# Altium integrated library ST Microcontroller 8-Bit.IntLib: 1326 symbols (part 1 of 31)
Pins are listed as number, name and electrical type; pins without a type are passive.

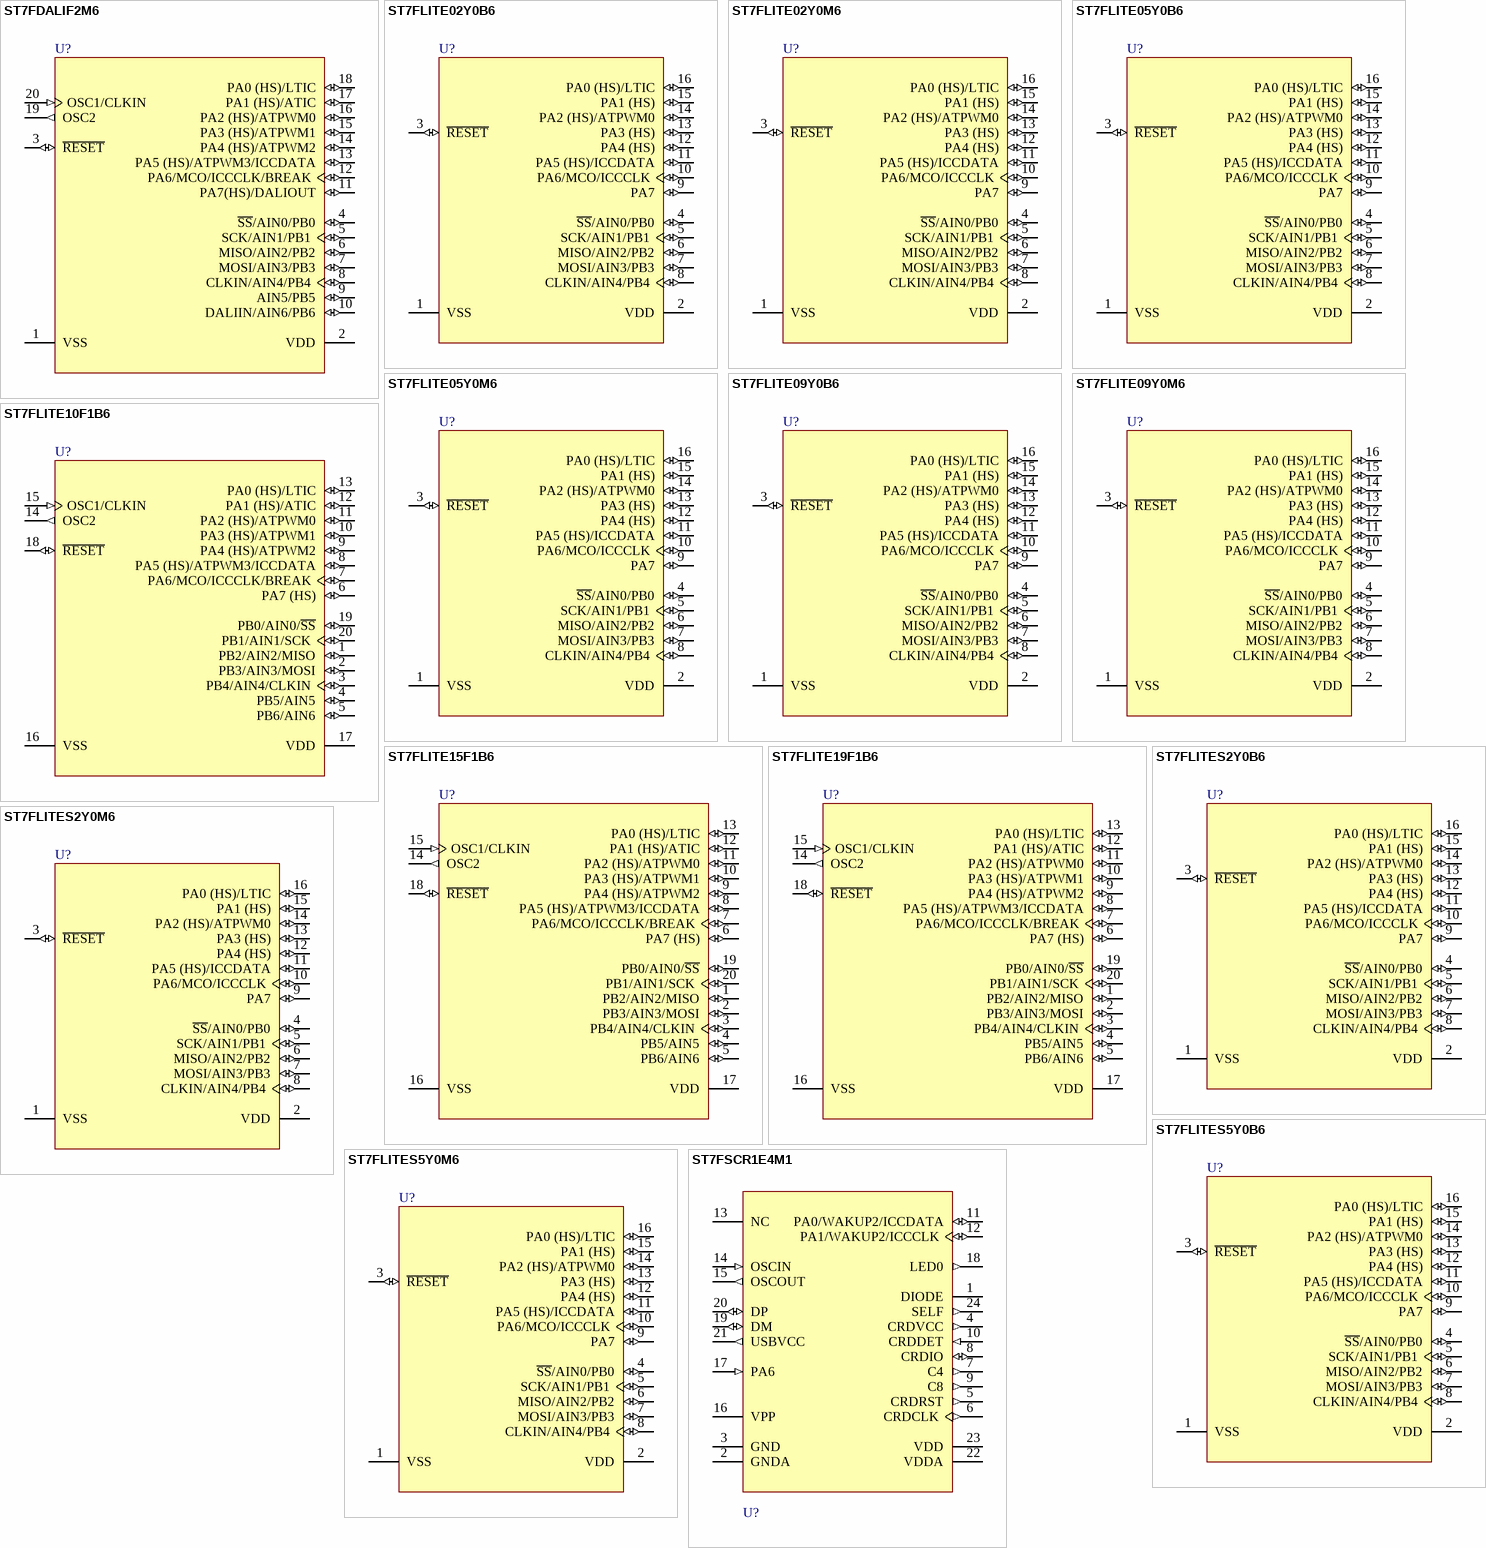
[diagram p0: symbols ST7FDALIF2M6 to ST7FSCR1E4M1]

## ST7FDALIF2M6
designator U?
8-Bit MCU with 8k Single Voltage FLASH Memory, 384b RAM, Data EEPROM, 10-Bit ADC, Timers, SPI and DALI, 20-Pin SOIC; Note: Pins 4-18 are External Interrupt (EI) pins.; Published: 26-May-2004; DatasheetDocument: rev1.3, Aug-2003; PackageDocument: Jul-2001; PackageReference: SO20; Publisher: Altium Limited; Code_JEDEC: MS-013-AC; Code_IPC: SO20W
footprint SO20 (Small Outline, Plastic; 20 Leads; Body Width 7.5 mm; Pitch 1.27 mm)
pins: 1 VSS (power), 2 VDD (power), 3 ~{RESET} (io), 4 ~{SS}/AIN0/PB0 (io), 5 SCK/AIN1/PB1 (io), 6 MISO/AIN2/PB2 (io), 7 MOSI/AIN3/PB3 (io), 8 CLKIN/AIN4/PB4 (io), 9 AIN5/PB5 (io), 10 DALIIN/AIN6/PB6 (io), 11 PA7(HS)/DALIOUT (io), 12 PA6/MCO/ICCCLK/BREAK (io), 13 PA5 (HS)/ATPWM3/ICCDATA (io), 14 PA4 (HS)/ATPWM2 (io), 15 PA3 (HS)/ATPWM1 (io), 16 PA2 (HS)/ATPWM0 (io), 17 PA1 (HS)/ATIC (io), 18 PA0 (HS)/LTIC (io), 19 OSC2 (out), 20 OSC1/CLKIN (in)

## ST7FLITE02Y0B6
designator U?
8-Bit MCU with 1.5k Single Voltage FLASH Memory, 128b RAM, Timers and SPI, 16-Pin DIP; Note: Pins 4, 7, 9 and 16 are External Interrupt (EI) pins.; Published: 26-May-2004; DatasheetDocument: rev2.5, Dec-2003; PackageDocument: Dec-2003; PackageReference: PDIP16; Publisher: Altium Limited
footprint PDIP16 (DIP; 16 Leads; Row Spacing 7.62 mm; Pitch 2.54 mm)
pins: 1 VSS (power), 2 VDD (power), 3 ~{RESET} (io), 4 ~{SS}/AIN0/PB0 (io), 5 SCK/AIN1/PB1 (io), 6 MISO/AIN2/PB2 (io), 7 MOSI/AIN3/PB3 (io), 8 CLKIN/AIN4/PB4 (io), 9 PA7 (io), 10 PA6/MCO/ICCCLK (io), 11 PA5 (HS)/ICCDATA (io), 12 PA4 (HS) (io), 13 PA3 (HS) (io), 14 PA2 (HS)/ATPWM0 (io), 15 PA1 (HS) (io), 16 PA0 (HS)/LTIC (io)

## ST7FLITE02Y0M6
designator U?
8-Bit MCU with 1.5k Single Voltage FLASH Memory, 128b RAM, Timers and SPI, 16-Pin SOIC; Note: Pins 4, 7, 9 and 16 are External Interrupt (EI) pins.; Published: 26-May-2004; DatasheetDocument: rev2.5, Dec-2003; PackageDocument: Dec-2003; PackageReference: PSO16; Publisher: Altium Limited; Code_JEDEC: MS-012-AC; Code_IPC: SO16
footprint PSO16 (Small Outline, Plastic; 16 Leads; Body Width 3.8 mm; Pitch 1.27 mm)
pins: 1 VSS (power), 2 VDD (power), 3 ~{RESET} (io), 4 ~{SS}/AIN0/PB0 (io), 5 SCK/AIN1/PB1 (io), 6 MISO/AIN2/PB2 (io), 7 MOSI/AIN3/PB3 (io), 8 CLKIN/AIN4/PB4 (io), 9 PA7 (io), 10 PA6/MCO/ICCCLK (io), 11 PA5 (HS)/ICCDATA (io), 12 PA4 (HS) (io), 13 PA3 (HS) (io), 14 PA2 (HS)/ATPWM0 (io), 15 PA1 (HS) (io), 16 PA0 (HS)/LTIC (io)

## ST7FLITE05Y0B6
designator U?
8-Bit MCU with 1.5k Single Voltage FLASH Memory, 128b RAM, 8-Bit ADC with Op-Amp, Timers and SPI, 16-Pin DIP; Note: Pins 4, 7, 9 and 16 are External Interrupt (EI) pins.; Published: 26-May-2004; DatasheetDocument: rev2.5, Dec-2003; PackageDocument: Dec-2003; PackageReference: PDIP16; Publisher: Altium Limited
footprint PDIP16 (DIP; 16 Leads; Row Spacing 7.62 mm; Pitch 2.54 mm)
pins: 1 VSS (power), 2 VDD (power), 3 ~{RESET} (io), 4 ~{SS}/AIN0/PB0 (io), 5 SCK/AIN1/PB1 (io), 6 MISO/AIN2/PB2 (io), 7 MOSI/AIN3/PB3 (io), 8 CLKIN/AIN4/PB4 (io), 9 PA7 (io), 10 PA6/MCO/ICCCLK (io), 11 PA5 (HS)/ICCDATA (io), 12 PA4 (HS) (io), 13 PA3 (HS) (io), 14 PA2 (HS)/ATPWM0 (io), 15 PA1 (HS) (io), 16 PA0 (HS)/LTIC (io)

## ST7FLITE05Y0M6
designator U?
8-Bit MCU with 1.5k Single Voltage FLASH Memory, 128b RAM, 8-Bit ADC with Op-Amp, Timers and SPI, 16-Pin SOIC; Note: Pins 4, 7, 9 and 16 are External Interrupt (EI) pins.; Published: 26-May-2004; DatasheetDocument: rev2.5, Dec-2003; PackageDocument: Dec-2003; PackageReference: PSO16; Publisher: Altium Limited; Code_JEDEC: MS-012-AC; Code_IPC: SO16
footprint PSO16 (Small Outline, Plastic; 16 Leads; Body Width 3.8 mm; Pitch 1.27 mm)
pins: 1 VSS (power), 2 VDD (power), 3 ~{RESET} (io), 4 ~{SS}/AIN0/PB0 (io), 5 SCK/AIN1/PB1 (io), 6 MISO/AIN2/PB2 (io), 7 MOSI/AIN3/PB3 (io), 8 CLKIN/AIN4/PB4 (io), 9 PA7 (io), 10 PA6/MCO/ICCCLK (io), 11 PA5 (HS)/ICCDATA (io), 12 PA4 (HS) (io), 13 PA3 (HS) (io), 14 PA2 (HS)/ATPWM0 (io), 15 PA1 (HS) (io), 16 PA0 (HS)/LTIC (io)

## ST7FLITE09Y0B6
designator U?
8-Bit MCU with 1.5k Single Voltage FLASH Memory, 128b RAM, Data EEPROM, 8-Bit ADC with Op-Amp, Timers and SPI, 16-Pin DIP; Note: Pins 4, 7, 9 and 16 are External Interrupt (EI) pins.; Published: 26-May-2004; DatasheetDocument: rev2.5, Dec-2003; PackageDocument: Dec-2003; PackageReference: PDIP16; Publisher: Altium Limited
footprint PDIP16 (DIP; 16 Leads; Row Spacing 7.62 mm; Pitch 2.54 mm)
pins: 1 VSS (power), 2 VDD (power), 3 ~{RESET} (io), 4 ~{SS}/AIN0/PB0 (io), 5 SCK/AIN1/PB1 (io), 6 MISO/AIN2/PB2 (io), 7 MOSI/AIN3/PB3 (io), 8 CLKIN/AIN4/PB4 (io), 9 PA7 (io), 10 PA6/MCO/ICCCLK (io), 11 PA5 (HS)/ICCDATA (io), 12 PA4 (HS) (io), 13 PA3 (HS) (io), 14 PA2 (HS)/ATPWM0 (io), 15 PA1 (HS) (io), 16 PA0 (HS)/LTIC (io)

## ST7FLITE09Y0M6
designator U?
8-Bit MCU with 1.5k Single Voltage FLASH Memory, 128b RAM, Data EEPROM, 8-Bit ADC with Op-Amp, Timers and SPI, 16-Pin SOIC; Note: Pins 4, 7, 9 and 16 are External Interrupt (EI) pins.; Published: 26-May-2004; DatasheetDocument: rev2.5, Dec-2003; PackageDocument: Dec-2003; PackageReference: PSO16; Publisher: Altium Limited; Code_JEDEC: MS-012-AC; Code_IPC: SO16
footprint PSO16 (Small Outline, Plastic; 16 Leads; Body Width 3.8 mm; Pitch 1.27 mm)
pins: 1 VSS (power), 2 VDD (power), 3 ~{RESET} (io), 4 ~{SS}/AIN0/PB0 (io), 5 SCK/AIN1/PB1 (io), 6 MISO/AIN2/PB2 (io), 7 MOSI/AIN3/PB3 (io), 8 CLKIN/AIN4/PB4 (io), 9 PA7 (io), 10 PA6/MCO/ICCCLK (io), 11 PA5 (HS)/ICCDATA (io), 12 PA4 (HS) (io), 13 PA3 (HS) (io), 14 PA2 (HS)/ATPWM0 (io), 15 PA1 (HS) (io), 16 PA0 (HS)/LTIC (io)

## ST7FLITE10F1B6
designator U?
8-Bit MCU with 4k Single Voltage FLASH Memory, 256b RAM, 10-Bit ADC with Op-Amp, Four Timers and SPI, 20-Pin DIP; Note: Pins 1-13, 19 and 20 are External Interrupt (EI) pins.; Published: 26-May-2004; DatasheetDocument: rev1.3, Jul-2003; PackageDocument: Jul-2003; PackageReference: PDIP20; Publisher: Altium Limited; Code_JEDEC: MS-001-AD
footprint PDIP20 (DIP; 20 Leads; Row Spacing 7.62 mm; Pitch 2.54 mm)
pins: 1 PB2/AIN2/MISO (io), 2 PB3/AIN3/MOSI (io), 3 PB4/AIN4/CLKIN (io), 4 PB5/AIN5 (io), 5 PB6/AIN6 (io), 6 PA7 (HS) (io), 7 PA6/MCO/ICCCLK/BREAK (io), 8 PA5 (HS)/ATPWM3/ICCDATA (io), 9 PA4 (HS)/ATPWM2 (io), 10 PA3 (HS)/ATPWM1 (io), 11 PA2 (HS)/ATPWM0 (io), 12 PA1 (HS)/ATIC (io), 13 PA0 (HS)/LTIC (io), 14 OSC2 (out), 15 OSC1/CLKIN (in), 16 VSS (power), 17 VDD (power), 18 ~{RESET} (io), 19 PB0/AIN0/~{SS} (io), 20 PB1/AIN1/SCK (io)

## ST7FLITE15F1B6
designator U?
8-Bit MCU with 4k Single Voltage FLASH Memory, 256b RAM, 10-Bit ADC with Op-Amp, Four Timers and SPI, 20-Pin DIP; Note: Pins 1-13, 19 and 20 are External Interrupt (EI) pins.; Published: 26-May-2004; DatasheetDocument: rev1.3, Jul-2003; PackageDocument: Jul-2003; PackageReference: PDIP20; Publisher: Altium Limited; Code_JEDEC: MS-001-AD
footprint PDIP20 (DIP; 20 Leads; Row Spacing 7.62 mm; Pitch 2.54 mm)
pins: 1 PB2/AIN2/MISO (io), 2 PB3/AIN3/MOSI (io), 3 PB4/AIN4/CLKIN (io), 4 PB5/AIN5 (io), 5 PB6/AIN6 (io), 6 PA7 (HS) (io), 7 PA6/MCO/ICCCLK/BREAK (io), 8 PA5 (HS)/ATPWM3/ICCDATA (io), 9 PA4 (HS)/ATPWM2 (io), 10 PA3 (HS)/ATPWM1 (io), 11 PA2 (HS)/ATPWM0 (io), 12 PA1 (HS)/ATIC (io), 13 PA0 (HS)/LTIC (io), 14 OSC2 (out), 15 OSC1/CLKIN (in), 16 VSS (power), 17 VDD (power), 18 ~{RESET} (io), 19 PB0/AIN0/~{SS} (io), 20 PB1/AIN1/SCK (io)

## ST7FLITE19F1B6
designator U?
8-Bit MCU with 4k Single Voltage FLASH Memory, 256b RAM, Data EEPROM, 10-Bit ADC with Op-Amp, Four Timers and SPI, 20-Pin DIP; Note: Pins 1-13, 19 and 20 are External Interrupt (EI) pins.; Published: 26-May-2004; DatasheetDocument: rev1.3, Jul-2003; PackageDocument: Jul-2003; PackageReference: PDIP20; Publisher: Altium Limited; Code_JEDEC: MS-001-AD
footprint PDIP20 (DIP; 20 Leads; Row Spacing 7.62 mm; Pitch 2.54 mm)
pins: 1 PB2/AIN2/MISO (io), 2 PB3/AIN3/MOSI (io), 3 PB4/AIN4/CLKIN (io), 4 PB5/AIN5 (io), 5 PB6/AIN6 (io), 6 PA7 (HS) (io), 7 PA6/MCO/ICCCLK/BREAK (io), 8 PA5 (HS)/ATPWM3/ICCDATA (io), 9 PA4 (HS)/ATPWM2 (io), 10 PA3 (HS)/ATPWM1 (io), 11 PA2 (HS)/ATPWM0 (io), 12 PA1 (HS)/ATIC (io), 13 PA0 (HS)/LTIC (io), 14 OSC2 (out), 15 OSC1/CLKIN (in), 16 VSS (power), 17 VDD (power), 18 ~{RESET} (io), 19 PB0/AIN0/~{SS} (io), 20 PB1/AIN1/SCK (io)

## ST7FLITES2Y0B6
designator U?
8-Bit MCU with 1k Single Voltage FLASH Memory, 128b RAM, Timers and SPI, 16-Pin DIP; Note: Pins 4, 7, 9 and 16 are External Interrupt (EI) pins.; Published: 26-May-2004; DatasheetDocument: rev2.5, Dec-2003; PackageDocument: Dec-2003; PackageReference: PDIP16; Publisher: Altium Limited
footprint PDIP16 (DIP; 16 Leads; Row Spacing 7.62 mm; Pitch 2.54 mm)
pins: 1 VSS (power), 2 VDD (power), 3 ~{RESET} (io), 4 ~{SS}/AIN0/PB0 (io), 5 SCK/AIN1/PB1 (io), 6 MISO/AIN2/PB2 (io), 7 MOSI/AIN3/PB3 (io), 8 CLKIN/AIN4/PB4 (io), 9 PA7 (io), 10 PA6/MCO/ICCCLK (io), 11 PA5 (HS)/ICCDATA (io), 12 PA4 (HS) (io), 13 PA3 (HS) (io), 14 PA2 (HS)/ATPWM0 (io), 15 PA1 (HS) (io), 16 PA0 (HS)/LTIC (io)

## ST7FLITES2Y0M6
designator U?
8-Bit MCU with 1k Single Voltage FLASH Memory, 128b RAM, Timers and SPI, 16-Pin SOIC; Note: Pins 4, 7, 9 and 16 are External Interrupt (EI) pins.; Published: 26-May-2004; DatasheetDocument: rev2.5, Dec-2003; PackageDocument: Dec-2003; PackageReference: PSO16; Publisher: Altium Limited; Code_JEDEC: MS-012-AC; Code_IPC: SO16
footprint PSO16 (Small Outline, Plastic; 16 Leads; Body Width 3.8 mm; Pitch 1.27 mm)
pins: 1 VSS (power), 2 VDD (power), 3 ~{RESET} (io), 4 ~{SS}/AIN0/PB0 (io), 5 SCK/AIN1/PB1 (io), 6 MISO/AIN2/PB2 (io), 7 MOSI/AIN3/PB3 (io), 8 CLKIN/AIN4/PB4 (io), 9 PA7 (io), 10 PA6/MCO/ICCCLK (io), 11 PA5 (HS)/ICCDATA (io), 12 PA4 (HS) (io), 13 PA3 (HS) (io), 14 PA2 (HS)/ATPWM0 (io), 15 PA1 (HS) (io), 16 PA0 (HS)/LTIC (io)

## ST7FLITES5Y0B6
designator U?
8-Bit MCU with 1k Single Voltage FLASH Memory, 128b RAM, 8-Bit ADC, Timers and SPI, 16-Pin DIP; Note: Pins 4, 7, 9 and 16 are External Interrupt (EI) pins.; Published: 26-May-2004; DatasheetDocument: rev2.5, Dec-2003; PackageDocument: Dec-2003; PackageReference: PDIP16; Publisher: Altium Limited
footprint PDIP16 (DIP; 16 Leads; Row Spacing 7.62 mm; Pitch 2.54 mm)
pins: 1 VSS (power), 2 VDD (power), 3 ~{RESET} (io), 4 ~{SS}/AIN0/PB0 (io), 5 SCK/AIN1/PB1 (io), 6 MISO/AIN2/PB2 (io), 7 MOSI/AIN3/PB3 (io), 8 CLKIN/AIN4/PB4 (io), 9 PA7 (io), 10 PA6/MCO/ICCCLK (io), 11 PA5 (HS)/ICCDATA (io), 12 PA4 (HS) (io), 13 PA3 (HS) (io), 14 PA2 (HS)/ATPWM0 (io), 15 PA1 (HS) (io), 16 PA0 (HS)/LTIC (io)

## ST7FLITES5Y0M6
designator U?
8-Bit MCU with 1k Single Voltage FLASH Memory, 128b RAM, 8-Bit ADC, Timers and SPI, 16-Pin SOIC; Note: Pins 4, 7, 9 and 16 are External Interrupt (EI) pins.; Published: 26-May-2004; DatasheetDocument: rev2.5, Dec-2003; PackageDocument: Dec-2003; PackageReference: PSO16; Publisher: Altium Limited; Code_JEDEC: MS-012-AC; Code_IPC: SO16
footprint PSO16 (Small Outline, Plastic; 16 Leads; Body Width 3.8 mm; Pitch 1.27 mm)
pins: 1 VSS (power), 2 VDD (power), 3 ~{RESET} (io), 4 ~{SS}/AIN0/PB0 (io), 5 SCK/AIN1/PB1 (io), 6 MISO/AIN2/PB2 (io), 7 MOSI/AIN3/PB3 (io), 8 CLKIN/AIN4/PB4 (io), 9 PA7 (io), 10 PA6/MCO/ICCCLK (io), 11 PA5 (HS)/ICCDATA (io), 12 PA4 (HS) (io), 13 PA3 (HS) (io), 14 PA2 (HS)/ATPWM0 (io), 15 PA1 (HS) (io), 16 PA0 (HS)/LTIC (io)

## ST7FSCR1E4M1
designator U?
8-Bit MCU with 16k FLASH, 768b RAM, Full-Speed USB, 8-Bit ADC, Low Power, Smartcard I/F, Timer, 24-Pin SOIC; Published: 26-May-2004; DatasheetDocument: rev1.3, Mar-2003; PackageDocument: Oct-2001; PackageReference: SO24; Publisher: Altium Limited; Code_IPC: SO24W
footprint SO24 (Small Outline, Plastic; 24 Leads; Body Width 7.5 mm; Pitch 1.27 mm)
pins: 1 DIODE (power), 2 GNDA (power), 3 GND (power), 4 CRDVCC (out), 5 CRDRST (out), 6 CRDCLK (out), 7 C4 (out), 8 CRDIO (io), 9 C8 (out), 10 CRDDET (in), 11 PA0/WAKUP2/ICCDATA (io), 12 PA1/WAKUP2/ICCCLK (io), 13 NC, 14 OSCIN (in), 15 OSCOUT (out), 16 VPP (power), 17 PA6 (in), 18 LED0 (out), 19 DM (io), 20 DP (io), 21 USBVCC (out), 22 VDDA (power), 23 VDD (power), 24 SELF (out)

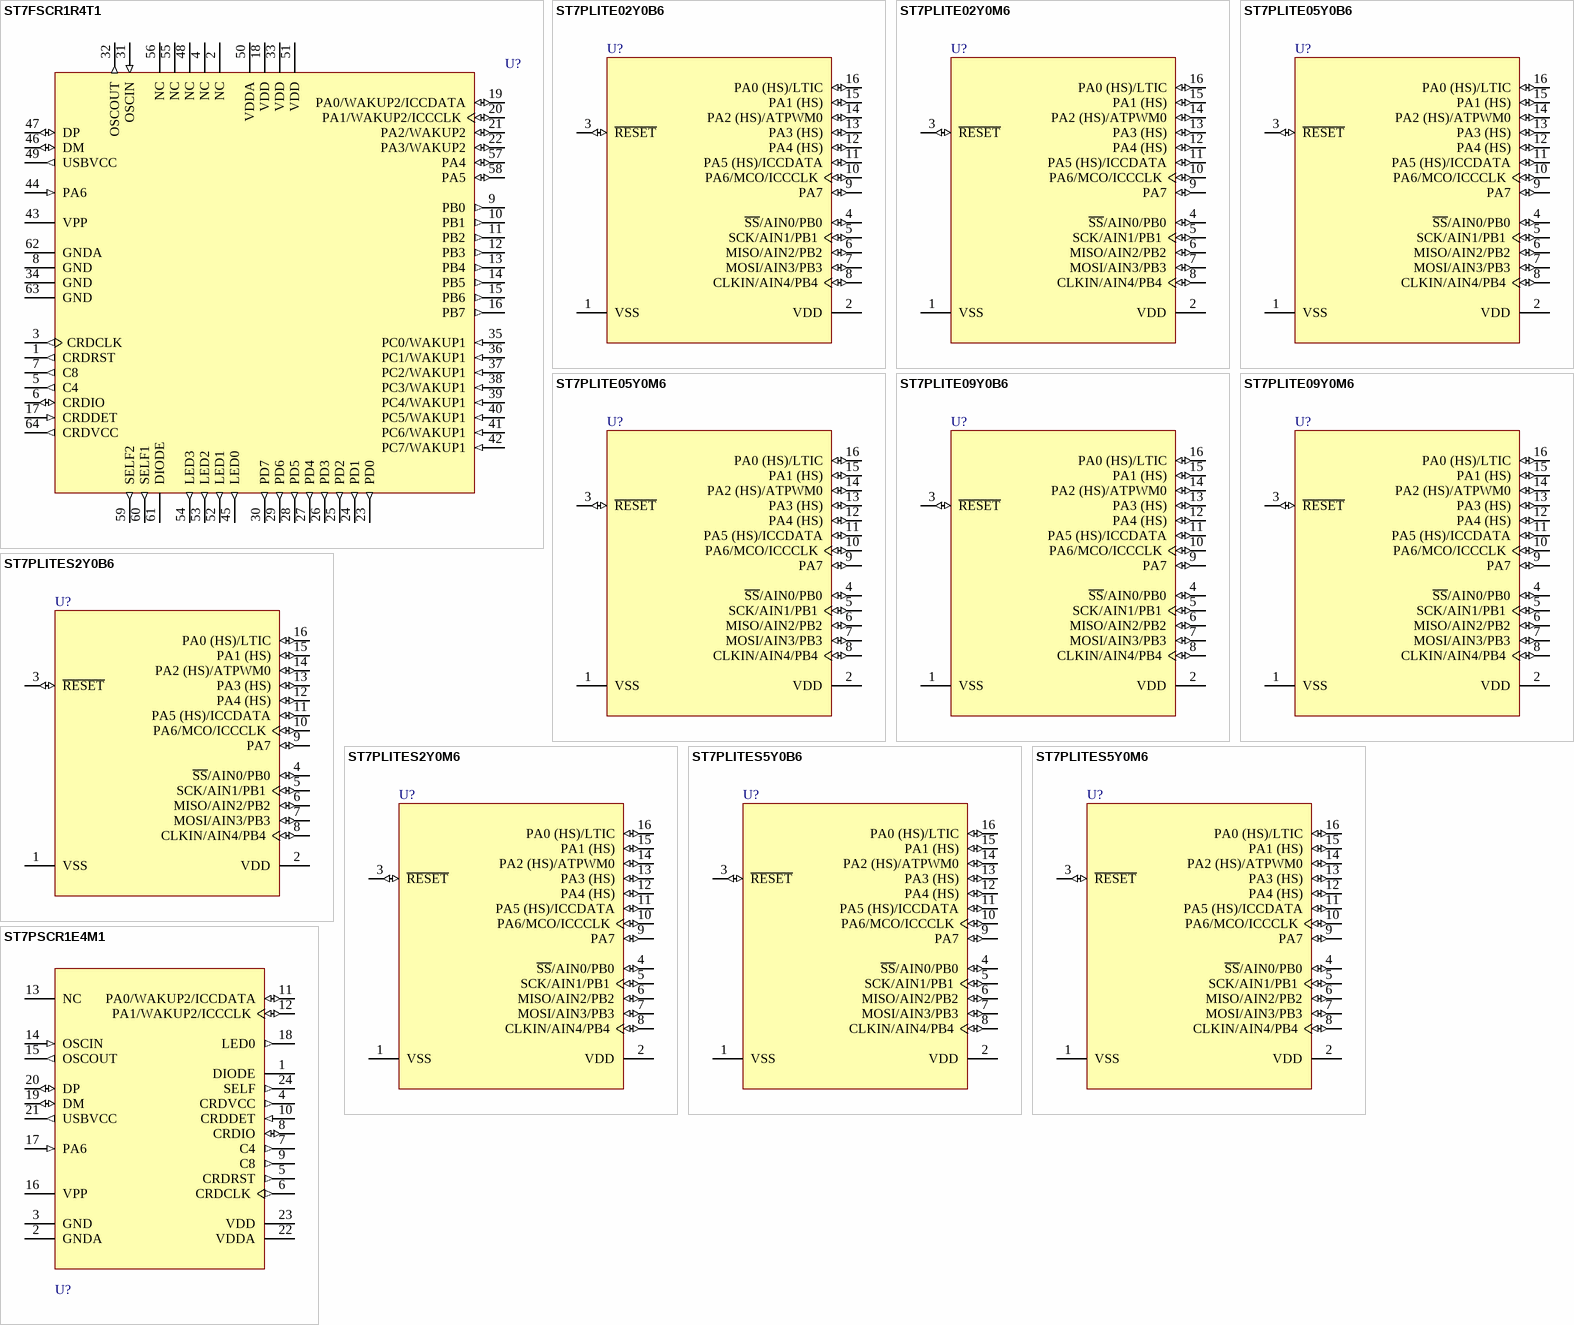
[diagram p1: symbols ST7FSCR1R4T1 to ST7PSCR1E4M1]

## ST7FSCR1R4T1
designator U?
8-Bit MCU with 16k FLASH, 768b RAM, Full-Speed USB, 8-Bit ADC, Low Power, Smartcard I/F, Timer, 64-Pin TQFP; PackageDocument: rev2.4, Jan-2002; Note: Pins 35-42 are External Interrupt (EI) pins.; Published: 26-May-2004; DatasheetDocument: rev1.3, Mar-2003; PackageReference: TQFP64-0.8; Publisher: Altium Limited
footprint TQFP64-0.8 (QFP, Thin; 64 Leads; Body 14 x 14 mm; Pitch 0.8 mm)
pins: 1 CRDRST (out), 2 NC, 3 CRDCLK (out), 4 NC, 5 C4 (out), 6 CRDIO (io), 7 C8 (out), 8 GND (power), 9 PB0 (out), 10 PB1 (out), 11 PB2 (out), 12 PB3 (out), 13 PB4 (out), 14 PB5 (out), 15 PB6 (out), 16 PB7 (out), 17 CRDDET (in), 18 VDD (power), 19 PA0/WAKUP2/ICCDATA (io), 20 PA1/WAKUP2/ICCCLK (io), 21 PA2/WAKUP2 (io), 22 PA3/WAKUP2 (io), 23 PD0 (out), 24 PD1 (out), 25 PD2 (out), 26 PD3 (out), 27 PD4 (out), 28 PD5 (out), 29 PD6 (out), 30 PD7 (out), 31 OSCIN (in), 32 OSCOUT (out), 33 VDD (power), 34 GND (power), 35 PC0/WAKUP1 (in), 36 PC1/WAKUP1 (in), 37 PC2/WAKUP1 (in), 38 PC3/WAKUP1 (in), 39 PC4/WAKUP1 (in), 40 PC5/WAKUP1 (in), 41 PC6/WAKUP1 (in), 42 PC7/WAKUP1 (in), 43 VPP (power), 44 PA6 (in), 45 LED0 (out), 46 DM (io), 47 DP (io), 48 NC, 49 USBVCC (out), 50 VDDA (power), 51 VDD (power), 52 LED1 (out), 53 LED2 (out), 54 LED3 (out), 55 NC, 56 NC, 57 PA4 (io), 58 PA5 (io), 59 SELF2 (out), 60 SELF1 (out), 61 DIODE (power), 62 GNDA (power), 63 GND (power), 64 CRDVCC (out)

## ST7PLITE02Y0B6
designator U?
8-Bit MCU with 1.5k Single Voltage FASTROM Memory, 128b RAM, Timers and SPI, 16-Pin DIP; Note: Pins 4, 7, 9 and 16 are External Interrupt (EI) pins.; Published: 26-May-2004; DatasheetDocument: rev2.5, Dec-2003; PackageDocument: Dec-2003; PackageReference: PDIP16; Publisher: Altium Limited
footprint PDIP16 (DIP; 16 Leads; Row Spacing 7.62 mm; Pitch 2.54 mm)
pins: 1 VSS (power), 2 VDD (power), 3 ~{RESET} (io), 4 ~{SS}/AIN0/PB0 (io), 5 SCK/AIN1/PB1 (io), 6 MISO/AIN2/PB2 (io), 7 MOSI/AIN3/PB3 (io), 8 CLKIN/AIN4/PB4 (io), 9 PA7 (io), 10 PA6/MCO/ICCCLK (io), 11 PA5 (HS)/ICCDATA (io), 12 PA4 (HS) (io), 13 PA3 (HS) (io), 14 PA2 (HS)/ATPWM0 (io), 15 PA1 (HS) (io), 16 PA0 (HS)/LTIC (io)

## ST7PLITE02Y0M6
designator U?
8-Bit MCU with 1.5k Single Voltage FASTROM Memory, 128b RAM, Timers and SPI, 16-Pin SOIC; Note: Pins 4, 7, 9 and 16 are External Interrupt (EI) pins.; Published: 26-May-2004; DatasheetDocument: rev2.5, Dec-2003; PackageDocument: Dec-2003; PackageReference: PSO16; Publisher: Altium Limited; Code_JEDEC: MS-012-AC; Code_IPC: SO16
footprint PSO16 (Small Outline, Plastic; 16 Leads; Body Width 3.8 mm; Pitch 1.27 mm)
pins: 1 VSS (power), 2 VDD (power), 3 ~{RESET} (io), 4 ~{SS}/AIN0/PB0 (io), 5 SCK/AIN1/PB1 (io), 6 MISO/AIN2/PB2 (io), 7 MOSI/AIN3/PB3 (io), 8 CLKIN/AIN4/PB4 (io), 9 PA7 (io), 10 PA6/MCO/ICCCLK (io), 11 PA5 (HS)/ICCDATA (io), 12 PA4 (HS) (io), 13 PA3 (HS) (io), 14 PA2 (HS)/ATPWM0 (io), 15 PA1 (HS) (io), 16 PA0 (HS)/LTIC (io)

## ST7PLITE05Y0B6
designator U?
8-Bit MCU with 1.5k Single Voltage FASTROM Memory, 128b RAM, 8-Bit ADC with Op-Amp, Timers and SPI, 16-Pin DIP; Note: Pins 4, 7, 9 and 16 are External Interrupt (EI) pins.; Published: 26-May-2004; DatasheetDocument: rev2.5, Dec-2003; PackageDocument: Dec-2003; PackageReference: PDIP16; Publisher: Altium Limited
footprint PDIP16 (DIP; 16 Leads; Row Spacing 7.62 mm; Pitch 2.54 mm)
pins: 1 VSS (power), 2 VDD (power), 3 ~{RESET} (io), 4 ~{SS}/AIN0/PB0 (io), 5 SCK/AIN1/PB1 (io), 6 MISO/AIN2/PB2 (io), 7 MOSI/AIN3/PB3 (io), 8 CLKIN/AIN4/PB4 (io), 9 PA7 (io), 10 PA6/MCO/ICCCLK (io), 11 PA5 (HS)/ICCDATA (io), 12 PA4 (HS) (io), 13 PA3 (HS) (io), 14 PA2 (HS)/ATPWM0 (io), 15 PA1 (HS) (io), 16 PA0 (HS)/LTIC (io)

## ST7PLITE05Y0M6
designator U?
8-Bit MCU with 1.5k Single Voltage FASTROM Memory, 128b RAM, 8-Bit ADC with Op-Amp, Timers and SPI, 16-Pin SOIC; Note: Pins 4, 7, 9 and 16 are External Interrupt (EI) pins.; Published: 26-May-2004; DatasheetDocument: rev2.5, Dec-2003; PackageDocument: Dec-2003; PackageReference: PSO16; Publisher: Altium Limited; Code_JEDEC: MS-012-AC; Code_IPC: SO16
footprint PSO16 (Small Outline, Plastic; 16 Leads; Body Width 3.8 mm; Pitch 1.27 mm)
pins: 1 VSS (power), 2 VDD (power), 3 ~{RESET} (io), 4 ~{SS}/AIN0/PB0 (io), 5 SCK/AIN1/PB1 (io), 6 MISO/AIN2/PB2 (io), 7 MOSI/AIN3/PB3 (io), 8 CLKIN/AIN4/PB4 (io), 9 PA7 (io), 10 PA6/MCO/ICCCLK (io), 11 PA5 (HS)/ICCDATA (io), 12 PA4 (HS) (io), 13 PA3 (HS) (io), 14 PA2 (HS)/ATPWM0 (io), 15 PA1 (HS) (io), 16 PA0 (HS)/LTIC (io)

## ST7PLITE09Y0B6
designator U?
8-Bit MCU with 1.5k Single Voltage FASTROM Memory, 128b RAM, Data EEPROM, 8-Bit ADC with Op-Amp, Timers and SPI, 16-Pin DIP; Note: Pins 4, 7, 9 and 16 are External Interrupt (EI) pins.; Published: 26-May-2004; DatasheetDocument: rev2.5, Dec-2003; PackageDocument: Dec-2003; PackageReference: PDIP16; Publisher: Altium Limited
footprint PDIP16 (DIP; 16 Leads; Row Spacing 7.62 mm; Pitch 2.54 mm)
pins: 1 VSS (power), 2 VDD (power), 3 ~{RESET} (io), 4 ~{SS}/AIN0/PB0 (io), 5 SCK/AIN1/PB1 (io), 6 MISO/AIN2/PB2 (io), 7 MOSI/AIN3/PB3 (io), 8 CLKIN/AIN4/PB4 (io), 9 PA7 (io), 10 PA6/MCO/ICCCLK (io), 11 PA5 (HS)/ICCDATA (io), 12 PA4 (HS) (io), 13 PA3 (HS) (io), 14 PA2 (HS)/ATPWM0 (io), 15 PA1 (HS) (io), 16 PA0 (HS)/LTIC (io)

## ST7PLITE09Y0M6
designator U?
8-Bit MCU with 1.5k Single Voltage FASTROM Memory, 128b RAM, Data EEPROM, 8-Bit ADC with Op-Amp, Timers and SPI, 16-Pin SOIC; Note: Pins 4, 7, 9 and 16 are External Interrupt (EI) pins.; Published: 26-May-2004; DatasheetDocument: rev2.5, Dec-2003; PackageDocument: Dec-2003; PackageReference: PSO16; Publisher: Altium Limited; Code_JEDEC: MS-012-AC; Code_IPC: SO16
footprint PSO16 (Small Outline, Plastic; 16 Leads; Body Width 3.8 mm; Pitch 1.27 mm)
pins: 1 VSS (power), 2 VDD (power), 3 ~{RESET} (io), 4 ~{SS}/AIN0/PB0 (io), 5 SCK/AIN1/PB1 (io), 6 MISO/AIN2/PB2 (io), 7 MOSI/AIN3/PB3 (io), 8 CLKIN/AIN4/PB4 (io), 9 PA7 (io), 10 PA6/MCO/ICCCLK (io), 11 PA5 (HS)/ICCDATA (io), 12 PA4 (HS) (io), 13 PA3 (HS) (io), 14 PA2 (HS)/ATPWM0 (io), 15 PA1 (HS) (io), 16 PA0 (HS)/LTIC (io)

## ST7PLITES2Y0B6
designator U?
8-Bit MCU with 1k Single Voltage FASTROM Memory, 128b RAM, Timers and SPI, 16-Pin DIP; Note: Pins 4, 7, 9 and 16 are External Interrupt (EI) pins.; Published: 26-May-2004; DatasheetDocument: rev2.5, Dec-2003; PackageDocument: Dec-2003; PackageReference: PDIP16; Publisher: Altium Limited
footprint PDIP16 (DIP; 16 Leads; Row Spacing 7.62 mm; Pitch 2.54 mm)
pins: 1 VSS (power), 2 VDD (power), 3 ~{RESET} (io), 4 ~{SS}/AIN0/PB0 (io), 5 SCK/AIN1/PB1 (io), 6 MISO/AIN2/PB2 (io), 7 MOSI/AIN3/PB3 (io), 8 CLKIN/AIN4/PB4 (io), 9 PA7 (io), 10 PA6/MCO/ICCCLK (io), 11 PA5 (HS)/ICCDATA (io), 12 PA4 (HS) (io), 13 PA3 (HS) (io), 14 PA2 (HS)/ATPWM0 (io), 15 PA1 (HS) (io), 16 PA0 (HS)/LTIC (io)

## ST7PLITES2Y0M6
designator U?
8-Bit MCU with 1k Single Voltage FASTROM Memory, 128b RAM, Timers and SPI, 16-Pin SOIC; Note: Pins 4, 7, 9 and 16 are External Interrupt (EI) pins.; Published: 26-May-2004; DatasheetDocument: rev2.5, Dec-2003; PackageDocument: Dec-2003; PackageReference: PSO16; Publisher: Altium Limited; Code_JEDEC: MS-012-AC; Code_IPC: SO16
footprint PSO16 (Small Outline, Plastic; 16 Leads; Body Width 3.8 mm; Pitch 1.27 mm)
pins: 1 VSS (power), 2 VDD (power), 3 ~{RESET} (io), 4 ~{SS}/AIN0/PB0 (io), 5 SCK/AIN1/PB1 (io), 6 MISO/AIN2/PB2 (io), 7 MOSI/AIN3/PB3 (io), 8 CLKIN/AIN4/PB4 (io), 9 PA7 (io), 10 PA6/MCO/ICCCLK (io), 11 PA5 (HS)/ICCDATA (io), 12 PA4 (HS) (io), 13 PA3 (HS) (io), 14 PA2 (HS)/ATPWM0 (io), 15 PA1 (HS) (io), 16 PA0 (HS)/LTIC (io)

## ST7PLITES5Y0B6
designator U?
8-Bit MCU with 1k Single Voltage FASTROM Memory, 128b RAM, 8-Bit ADC, Timers and SPI, 16-Pin DIP; Note: Pins 4, 7, 9 and 16 are External Interrupt (EI) pins.; Published: 26-May-2004; DatasheetDocument: rev2.5, Dec-2003; PackageDocument: Dec-2003; PackageReference: PDIP16; Publisher: Altium Limited
footprint PDIP16 (DIP; 16 Leads; Row Spacing 7.62 mm; Pitch 2.54 mm)
pins: 1 VSS (power), 2 VDD (power), 3 ~{RESET} (io), 4 ~{SS}/AIN0/PB0 (io), 5 SCK/AIN1/PB1 (io), 6 MISO/AIN2/PB2 (io), 7 MOSI/AIN3/PB3 (io), 8 CLKIN/AIN4/PB4 (io), 9 PA7 (io), 10 PA6/MCO/ICCCLK (io), 11 PA5 (HS)/ICCDATA (io), 12 PA4 (HS) (io), 13 PA3 (HS) (io), 14 PA2 (HS)/ATPWM0 (io), 15 PA1 (HS) (io), 16 PA0 (HS)/LTIC (io)

## ST7PLITES5Y0M6
designator U?
8-Bit MCU with 1k Single Voltage FASTROM Memory, 128b RAM, 8-Bit ADC, Timers and SPI, 16-Pin SOIC; Note: Pins 4, 7, 9 and 16 are External Interrupt (EI) pins.; Published: 26-May-2004; DatasheetDocument: rev2.5, Dec-2003; PackageDocument: Dec-2003; PackageReference: PSO16; Publisher: Altium Limited; Code_JEDEC: MS-012-AC; Code_IPC: SO16
footprint PSO16 (Small Outline, Plastic; 16 Leads; Body Width 3.8 mm; Pitch 1.27 mm)
pins: 1 VSS (power), 2 VDD (power), 3 ~{RESET} (io), 4 ~{SS}/AIN0/PB0 (io), 5 SCK/AIN1/PB1 (io), 6 MISO/AIN2/PB2 (io), 7 MOSI/AIN3/PB3 (io), 8 CLKIN/AIN4/PB4 (io), 9 PA7 (io), 10 PA6/MCO/ICCCLK (io), 11 PA5 (HS)/ICCDATA (io), 12 PA4 (HS) (io), 13 PA3 (HS) (io), 14 PA2 (HS)/ATPWM0 (io), 15 PA1 (HS) (io), 16 PA0 (HS)/LTIC (io)

## ST7PSCR1E4M1
designator U?
8-Bit MCU with 16k FASTROM, 768b RAM, Full-Speed USB, 8-Bit ADC, Low Power, Smartcard I/F, Timer, 24-Pin SOIC; Published: 26-May-2004; DatasheetDocument: rev1.3, Mar-2003; PackageDocument: Oct-2001; PackageReference: SO24; Publisher: Altium Limited; Code_IPC: SO24W
footprint SO24 (Small Outline, Plastic; 24 Leads; Body Width 7.5 mm; Pitch 1.27 mm)
pins: 1 DIODE (power), 2 GNDA (power), 3 GND (power), 4 CRDVCC (out), 5 CRDRST (out), 6 CRDCLK (out), 7 C4 (out), 8 CRDIO (io), 9 C8 (out), 10 CRDDET (in), 11 PA0/WAKUP2/ICCDATA (io), 12 PA1/WAKUP2/ICCCLK (io), 13 NC, 14 OSCIN (in), 15 OSCOUT (out), 16 VPP (power), 17 PA6 (in), 18 LED0 (out), 19 DM (io), 20 DP (io), 21 USBVCC (out), 22 VDDA (power), 23 VDD (power), 24 SELF (out)

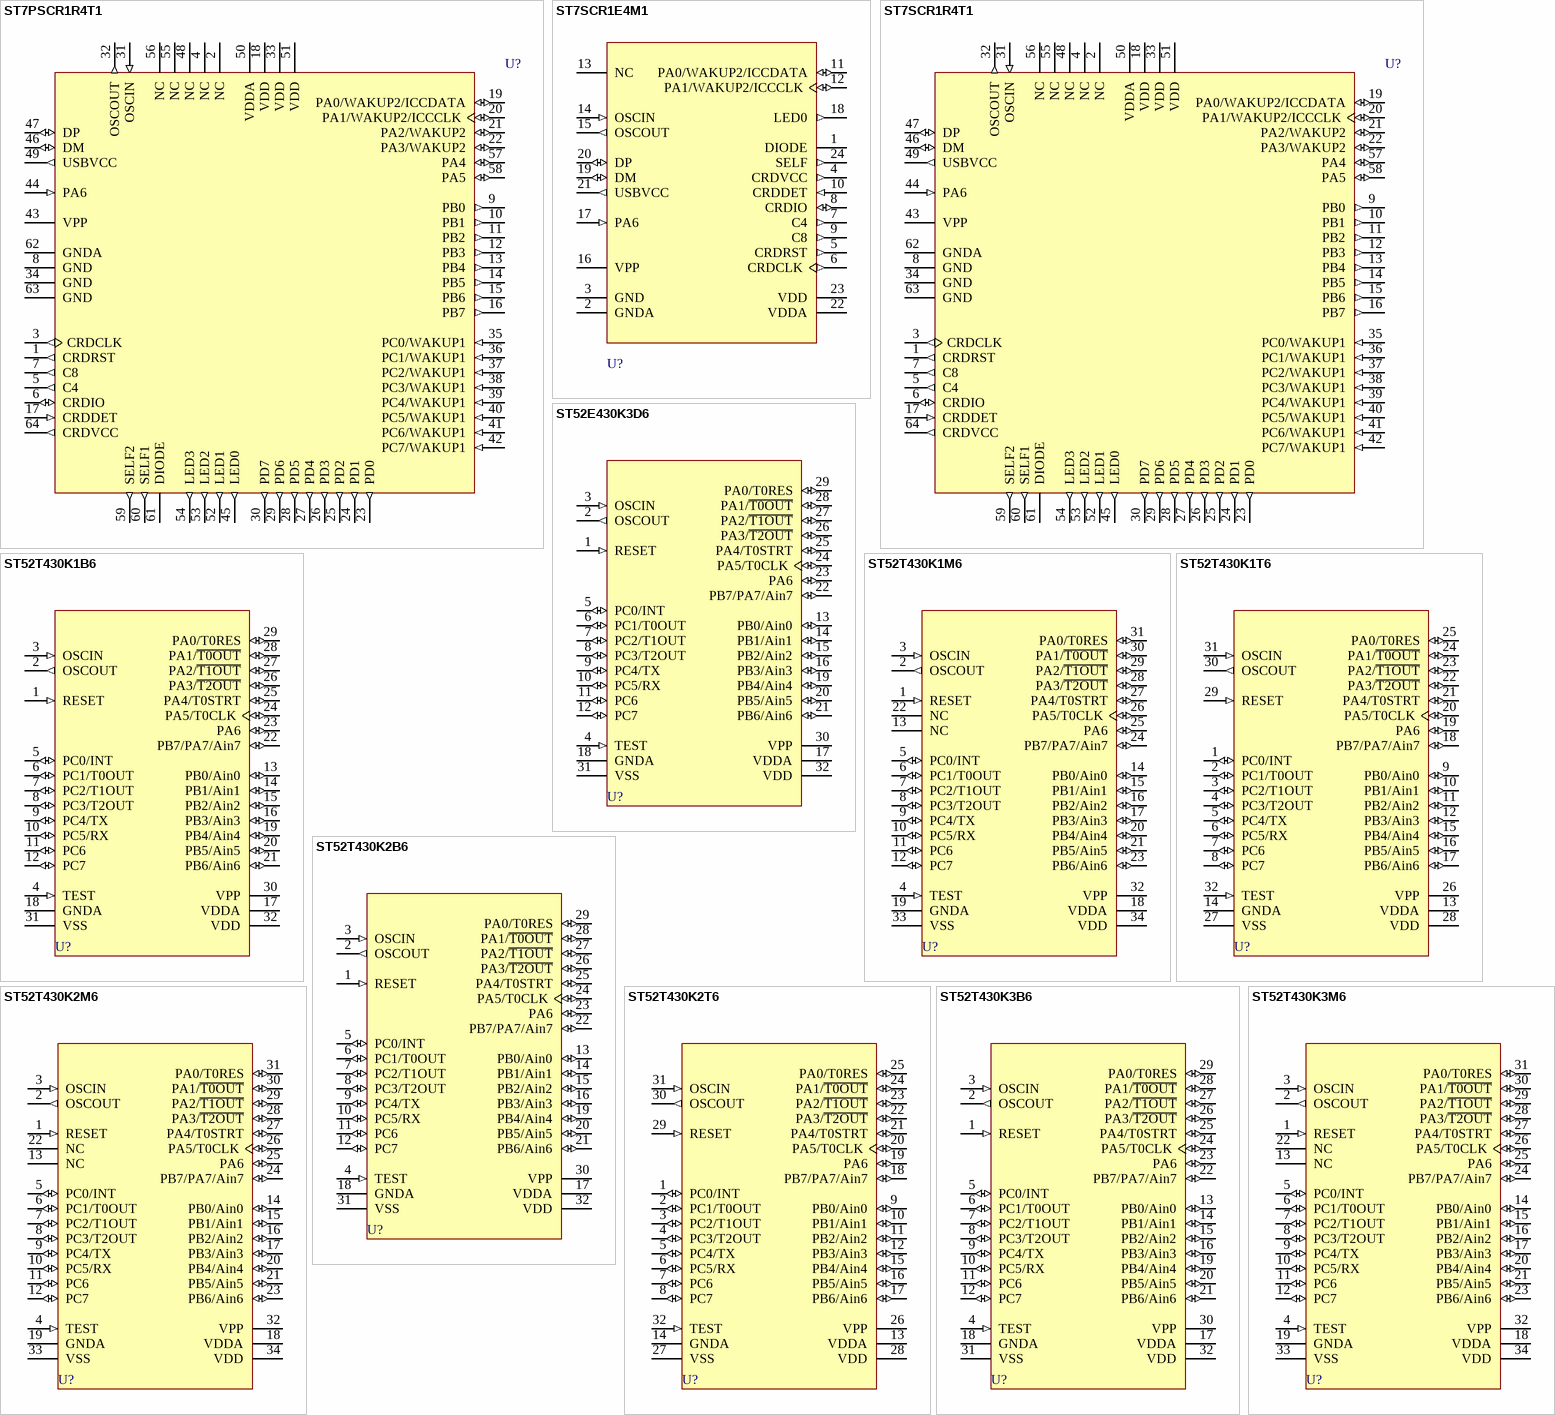
[diagram p2: symbols ST7PSCR1R4T1 to ST52T430K3M6]

## ST7PSCR1R4T1
designator U?
8-Bit MCU with 16k FASTROM, 768b RAM, Full-Speed USB, 8-Bit ADC, Low Power, Smartcard I/F, Timer, 64-Pin TQFP; PackageDocument: rev2.4, Jan-2002; Note: Pins 35-42 are External Interrupt (EI) pins.; Published: 26-May-2004; DatasheetDocument: rev1.3, Mar-2003; PackageReference: TQFP64-0.8; Publisher: Altium Limited
footprint TQFP64-0.8 (QFP, Thin; 64 Leads; Body 14 x 14 mm; Pitch 0.8 mm)
pins: 1 CRDRST (out), 2 NC, 3 CRDCLK (out), 4 NC, 5 C4 (out), 6 CRDIO (io), 7 C8 (out), 8 GND (power), 9 PB0 (out), 10 PB1 (out), 11 PB2 (out), 12 PB3 (out), 13 PB4 (out), 14 PB5 (out), 15 PB6 (out), 16 PB7 (out), 17 CRDDET (in), 18 VDD (power), 19 PA0/WAKUP2/ICCDATA (io), 20 PA1/WAKUP2/ICCCLK (io), 21 PA2/WAKUP2 (io), 22 PA3/WAKUP2 (io), 23 PD0 (out), 24 PD1 (out), 25 PD2 (out), 26 PD3 (out), 27 PD4 (out), 28 PD5 (out), 29 PD6 (out), 30 PD7 (out), 31 OSCIN (in), 32 OSCOUT (out), 33 VDD (power), 34 GND (power), 35 PC0/WAKUP1 (in), 36 PC1/WAKUP1 (in), 37 PC2/WAKUP1 (in), 38 PC3/WAKUP1 (in), 39 PC4/WAKUP1 (in), 40 PC5/WAKUP1 (in), 41 PC6/WAKUP1 (in), 42 PC7/WAKUP1 (in), 43 VPP (power), 44 PA6 (in), 45 LED0 (out), 46 DM (io), 47 DP (io), 48 NC, 49 USBVCC (out), 50 VDDA (power), 51 VDD (power), 52 LED1 (out), 53 LED2 (out), 54 LED3 (out), 55 NC, 56 NC, 57 PA4 (io), 58 PA5 (io), 59 SELF2 (out), 60 SELF1 (out), 61 DIODE (power), 62 GNDA (power), 63 GND (power), 64 CRDVCC (out)

## ST7SCR1E4M1
designator U?
8-Bit MCU with 16k ROM, 768b RAM, Full-Speed USB, 8-Bit ADC, Low Power, Smartcard I/F, Timer, 24-Pin SOIC; Published: 26-May-2004; DatasheetDocument: rev1.3, Mar-2003; PackageDocument: Oct-2001; PackageReference: SO24; Publisher: Altium Limited; Code_IPC: SO24W
footprint SO24 (Small Outline, Plastic; 24 Leads; Body Width 7.5 mm; Pitch 1.27 mm)
pins: 1 DIODE (power), 2 GNDA (power), 3 GND (power), 4 CRDVCC (out), 5 CRDRST (out), 6 CRDCLK (out), 7 C4 (out), 8 CRDIO (io), 9 C8 (out), 10 CRDDET (in), 11 PA0/WAKUP2/ICCDATA (io), 12 PA1/WAKUP2/ICCCLK (io), 13 NC, 14 OSCIN (in), 15 OSCOUT (out), 16 VPP (power), 17 PA6 (in), 18 LED0 (out), 19 DM (io), 20 DP (io), 21 USBVCC (out), 22 VDDA (power), 23 VDD (power), 24 SELF (out)

## ST7SCR1R4T1
designator U?
8-Bit MCU with 16k ROM, 768b RAM, Full-Speed USB, 8-Bit ADC, Low Power, Smartcard I/F, Timer, 64-Pin TQFP; PackageDocument: rev2.4, Jan-2002; Note: Pins 35-42 are External Interrupt (EI) pins.; Published: 26-May-2004; DatasheetDocument: rev1.3, Mar-2003; PackageReference: TQFP64-0.8; Publisher: Altium Limited
footprint TQFP64-0.8 (QFP, Thin; 64 Leads; Body 14 x 14 mm; Pitch 0.8 mm)
pins: 1 CRDRST (out), 2 NC, 3 CRDCLK (out), 4 NC, 5 C4 (out), 6 CRDIO (io), 7 C8 (out), 8 GND (power), 9 PB0 (out), 10 PB1 (out), 11 PB2 (out), 12 PB3 (out), 13 PB4 (out), 14 PB5 (out), 15 PB6 (out), 16 PB7 (out), 17 CRDDET (in), 18 VDD (power), 19 PA0/WAKUP2/ICCDATA (io), 20 PA1/WAKUP2/ICCCLK (io), 21 PA2/WAKUP2 (io), 22 PA3/WAKUP2 (io), 23 PD0 (out), 24 PD1 (out), 25 PD2 (out), 26 PD3 (out), 27 PD4 (out), 28 PD5 (out), 29 PD6 (out), 30 PD7 (out), 31 OSCIN (in), 32 OSCOUT (out), 33 VDD (power), 34 GND (power), 35 PC0/WAKUP1 (in), 36 PC1/WAKUP1 (in), 37 PC2/WAKUP1 (in), 38 PC3/WAKUP1 (in), 39 PC4/WAKUP1 (in), 40 PC5/WAKUP1 (in), 41 PC6/WAKUP1 (in), 42 PC7/WAKUP1 (in), 43 VPP (power), 44 PA6 (in), 45 LED0 (out), 46 DM (io), 47 DP (io), 48 NC, 49 USBVCC (out), 50 VDDA (power), 51 VDD (power), 52 LED1 (out), 53 LED2 (out), 54 LED3 (out), 55 NC, 56 NC, 57 PA4 (io), 58 PA5 (io), 59 SELF2 (out), 60 SELF1 (out), 61 DIODE (power), 62 GNDA (power), 63 GND (power), 64 CRDVCC (out)

## ST52E430K3D6
designator U?
8-Bit EPROM Intelligent Controller Unit (ICU) with Three Timer/PWM, ADC and SCI, 32-Pin CSDIP; Published: 26-May-2004; DatasheetDocument: rev1.9, May-2003; PackageDocument: Oct-2001; PackageReference: CSDIP32W; Publisher: Altium Limited
footprint CSDIP32W (DIP, Ceramic, Shrink; 32 Leads; Row Spacing 10.16 mm; Pitch 1.78 mm)
pins: 1 RESET (in), 2 OSCOUT (out), 3 OSCIN (in), 4 TEST (in), 5 PC0/INT (io), 6 PC1/T0OUT (io), 7 PC2/T1OUT (io), 8 PC3/T2OUT (io), 9 PC4/TX (io), 10 PC5/RX (io), 11 PC6 (io), 12 PC7 (io), 13 PB0/Ain0 (io), 14 PB1/Ain1 (io), 15 PB2/Ain2 (io), 16 PB3/Ain3 (io), 17 VDDA (power), 18 GNDA (power), 19 PB4/Ain4 (io), 20 PB5/Ain5 (io), 21 PB6/Ain6 (io), 22 PB7/PA7/Ain7 (io), 23 PA6 (io), 24 PA5/T0CLK (io), 25 PA4/T0STRT (io), 26 PA3/~{T2OUT} (io), 27 PA2/~{T1OUT} (io), 28 PA1/~{T0OUT} (io), 29 PA0/T0RES (io), 30 VPP (power), 31 VSS (power), 32 VDD (power)

## ST52T430K1B6
designator U?
8-Bit OTP Intelligent Controller Unit (ICU) with Three Timer/PWM, ADC and SCI, 32-Pin PSDIP; PackageDocument: rev1.7, Oct-2001; Published: 26-May-2004; DatasheetDocument: rev1.9, May-2003; PackageReference: PSDIP32; Publisher: Altium Limited
footprint PSDIP32 (DIP, Plastic Shrink; 32 Leads; Row Spacing 10.16 mm; Pitch 1.78 mm)
pins: 1 RESET (in), 2 OSCOUT (out), 3 OSCIN (in), 4 TEST (in), 5 PC0/INT (io), 6 PC1/T0OUT (io), 7 PC2/T1OUT (io), 8 PC3/T2OUT (io), 9 PC4/TX (io), 10 PC5/RX (io), 11 PC6 (io), 12 PC7 (io), 13 PB0/Ain0 (io), 14 PB1/Ain1 (io), 15 PB2/Ain2 (io), 16 PB3/Ain3 (io), 17 VDDA (power), 18 GNDA (power), 19 PB4/Ain4 (io), 20 PB5/Ain5 (io), 21 PB6/Ain6 (io), 22 PB7/PA7/Ain7 (io), 23 PA6 (io), 24 PA5/T0CLK (io), 25 PA4/T0STRT (io), 26 PA3/~{T2OUT} (io), 27 PA2/~{T1OUT} (io), 28 PA1/~{T0OUT} (io), 29 PA0/T0RES (io), 30 VPP (power), 31 VSS (power), 32 VDD (power)

## ST52T430K1M6
designator U?
8-Bit OTP Intelligent Controller Unit (ICU) with Three Timer/PWM, ADC and SCI, 34-Pin SSO; PackageDocument: rev1.7, Oct-2001; Published: 26-May-2004; DatasheetDocument: rev1.9, May-2003; PackageReference: SO34S; Publisher: Altium Limited
footprint SO34S (Small Outline, Plastic; 34 Leads; Body Width 7.5 mm; Pitch 1.02 mm)
pins: 1 RESET (in), 2 OSCOUT (out), 3 OSCIN (in), 4 TEST (in), 5 PC0/INT (io), 6 PC1/T0OUT (io), 7 PC2/T1OUT (io), 8 PC3/T2OUT (io), 9 PC4/TX (io), 10 PC5/RX (io), 11 PC6 (io), 12 PC7 (io), 13 NC, 14 PB0/Ain0 (io), 15 PB1/Ain1 (io), 16 PB2/Ain2 (io), 17 PB3/Ain3 (io), 18 VDDA (power), 19 GNDA (power), 20 PB4/Ain4 (io), 21 PB5/Ain5 (io), 22 NC, 23 PB6/Ain6 (io), 24 PB7/PA7/Ain7 (io), 25 PA6 (io), 26 PA5/T0CLK (io), 27 PA4/T0STRT (io), 28 PA3/~{T2OUT} (io), 29 PA2/~{T1OUT} (io), 30 PA1/~{T0OUT} (io), 31 PA0/T0RES (io), 32 VPP (power), 33 VSS (power), 34 VDD (power)

## ST52T430K1T6
designator U?
8-Bit OTP Intelligent Controller Unit (ICU) with Three Timer/PWM, ADC and SCI, 32-Pin TQFP; Published: 26-May-2004; DatasheetDocument: rev1.9, May-2003; PackageDocument: Oct-1997; PackageReference: TQFP32; Publisher: Altium Limited
footprint TQFP32 (QFP; 32 Leads; Body 7 x 7 mm; Pitch 0.8 mm)
pins: 1 PC0/INT (io), 2 PC1/T0OUT (io), 3 PC2/T1OUT (io), 4 PC3/T2OUT (io), 5 PC4/TX (io), 6 PC5/RX (io), 7 PC6 (io), 8 PC7 (io), 9 PB0/Ain0 (io), 10 PB1/Ain1 (io), 11 PB2/Ain2 (io), 12 PB3/Ain3 (io), 13 VDDA (power), 14 GNDA (power), 15 PB4/Ain4 (io), 16 PB5/Ain5 (io), 17 PB6/Ain6 (io), 18 PB7/PA7/Ain7 (io), 19 PA6 (io), 20 PA5/T0CLK (io), 21 PA4/T0STRT (io), 22 PA3/~{T2OUT} (io), 23 PA2/~{T1OUT} (io), 24 PA1/~{T0OUT} (io), 25 PA0/T0RES (io), 26 VPP (power), 27 VSS (power), 28 VDD (power), 29 RESET (in), 30 OSCOUT (out), 31 OSCIN (in), 32 TEST (in)

## ST52T430K2B6
designator U?
8-Bit OTP Intelligent Controller Unit (ICU) with Three Timer/PWM, ADC and SCI, 32-Pin PSDIP; PackageDocument: rev1.7, Oct-2001; Published: 26-May-2004; DatasheetDocument: rev1.9, May-2003; PackageReference: PSDIP32; Publisher: Altium Limited
footprint PSDIP32 (DIP, Plastic Shrink; 32 Leads; Row Spacing 10.16 mm; Pitch 1.78 mm)
pins: 1 RESET (in), 2 OSCOUT (out), 3 OSCIN (in), 4 TEST (in), 5 PC0/INT (io), 6 PC1/T0OUT (io), 7 PC2/T1OUT (io), 8 PC3/T2OUT (io), 9 PC4/TX (io), 10 PC5/RX (io), 11 PC6 (io), 12 PC7 (io), 13 PB0/Ain0 (io), 14 PB1/Ain1 (io), 15 PB2/Ain2 (io), 16 PB3/Ain3 (io), 17 VDDA (power), 18 GNDA (power), 19 PB4/Ain4 (io), 20 PB5/Ain5 (io), 21 PB6/Ain6 (io), 22 PB7/PA7/Ain7 (io), 23 PA6 (io), 24 PA5/T0CLK (io), 25 PA4/T0STRT (io), 26 PA3/~{T2OUT} (io), 27 PA2/~{T1OUT} (io), 28 PA1/~{T0OUT} (io), 29 PA0/T0RES (io), 30 VPP (power), 31 VSS (power), 32 VDD (power)

## ST52T430K2M6
designator U?
8-Bit OTP Intelligent Controller Unit (ICU) with Three Timer/PWM, ADC and SCI, 34-Pin SSO; PackageDocument: rev1.7, Oct-2001; Published: 26-May-2004; DatasheetDocument: rev1.9, May-2003; PackageReference: SO34S; Publisher: Altium Limited
footprint SO34S (Small Outline, Plastic; 34 Leads; Body Width 7.5 mm; Pitch 1.02 mm)
pins: 1 RESET (in), 2 OSCOUT (out), 3 OSCIN (in), 4 TEST (in), 5 PC0/INT (io), 6 PC1/T0OUT (io), 7 PC2/T1OUT (io), 8 PC3/T2OUT (io), 9 PC4/TX (io), 10 PC5/RX (io), 11 PC6 (io), 12 PC7 (io), 13 NC, 14 PB0/Ain0 (io), 15 PB1/Ain1 (io), 16 PB2/Ain2 (io), 17 PB3/Ain3 (io), 18 VDDA (power), 19 GNDA (power), 20 PB4/Ain4 (io), 21 PB5/Ain5 (io), 22 NC, 23 PB6/Ain6 (io), 24 PB7/PA7/Ain7 (io), 25 PA6 (io), 26 PA5/T0CLK (io), 27 PA4/T0STRT (io), 28 PA3/~{T2OUT} (io), 29 PA2/~{T1OUT} (io), 30 PA1/~{T0OUT} (io), 31 PA0/T0RES (io), 32 VPP (power), 33 VSS (power), 34 VDD (power)

## ST52T430K2T6
designator U?
8-Bit OTP Intelligent Controller Unit (ICU) with Three Timer/PWM, ADC and SCI, 32-Pin TQFP; Published: 26-May-2004; DatasheetDocument: rev1.9, May-2003; PackageDocument: Oct-1997; PackageReference: TQFP32; Publisher: Altium Limited
footprint TQFP32 (QFP; 32 Leads; Body 7 x 7 mm; Pitch 0.8 mm)
pins: 1 PC0/INT (io), 2 PC1/T0OUT (io), 3 PC2/T1OUT (io), 4 PC3/T2OUT (io), 5 PC4/TX (io), 6 PC5/RX (io), 7 PC6 (io), 8 PC7 (io), 9 PB0/Ain0 (io), 10 PB1/Ain1 (io), 11 PB2/Ain2 (io), 12 PB3/Ain3 (io), 13 VDDA (power), 14 GNDA (power), 15 PB4/Ain4 (io), 16 PB5/Ain5 (io), 17 PB6/Ain6 (io), 18 PB7/PA7/Ain7 (io), 19 PA6 (io), 20 PA5/T0CLK (io), 21 PA4/T0STRT (io), 22 PA3/~{T2OUT} (io), 23 PA2/~{T1OUT} (io), 24 PA1/~{T0OUT} (io), 25 PA0/T0RES (io), 26 VPP (power), 27 VSS (power), 28 VDD (power), 29 RESET (in), 30 OSCOUT (out), 31 OSCIN (in), 32 TEST (in)

## ST52T430K3B6
designator U?
8-Bit OTP Intelligent Controller Unit (ICU) with Three Timer/PWM, ADC and SCI, 32-Pin PSDIP; PackageDocument: rev1.7, Oct-2001; Published: 26-May-2004; DatasheetDocument: rev1.9, May-2003; PackageReference: PSDIP32; Publisher: Altium Limited
footprint PSDIP32 (DIP, Plastic Shrink; 32 Leads; Row Spacing 10.16 mm; Pitch 1.78 mm)
pins: 1 RESET (in), 2 OSCOUT (out), 3 OSCIN (in), 4 TEST (in), 5 PC0/INT (io), 6 PC1/T0OUT (io), 7 PC2/T1OUT (io), 8 PC3/T2OUT (io), 9 PC4/TX (io), 10 PC5/RX (io), 11 PC6 (io), 12 PC7 (io), 13 PB0/Ain0 (io), 14 PB1/Ain1 (io), 15 PB2/Ain2 (io), 16 PB3/Ain3 (io), 17 VDDA (power), 18 GNDA (power), 19 PB4/Ain4 (io), 20 PB5/Ain5 (io), 21 PB6/Ain6 (io), 22 PB7/PA7/Ain7 (io), 23 PA6 (io), 24 PA5/T0CLK (io), 25 PA4/T0STRT (io), 26 PA3/~{T2OUT} (io), 27 PA2/~{T1OUT} (io), 28 PA1/~{T0OUT} (io), 29 PA0/T0RES (io), 30 VPP (power), 31 VSS (power), 32 VDD (power)

## ST52T430K3M6
designator U?
8-Bit OTP Intelligent Controller Unit (ICU) with Three Timer/PWM, ADC and SCI, 34-Pin SSO; PackageDocument: rev1.7, Oct-2001; Published: 26-May-2004; DatasheetDocument: rev1.9, May-2003; PackageReference: SO34S; Publisher: Altium Limited
footprint SO34S (Small Outline, Plastic; 34 Leads; Body Width 7.5 mm; Pitch 1.02 mm)
pins: 1 RESET (in), 2 OSCOUT (out), 3 OSCIN (in), 4 TEST (in), 5 PC0/INT (io), 6 PC1/T0OUT (io), 7 PC2/T1OUT (io), 8 PC3/T2OUT (io), 9 PC4/TX (io), 10 PC5/RX (io), 11 PC6 (io), 12 PC7 (io), 13 NC, 14 PB0/Ain0 (io), 15 PB1/Ain1 (io), 16 PB2/Ain2 (io), 17 PB3/Ain3 (io), 18 VDDA (power), 19 GNDA (power), 20 PB4/Ain4 (io), 21 PB5/Ain5 (io), 22 NC, 23 PB6/Ain6 (io), 24 PB7/PA7/Ain7 (io), 25 PA6 (io), 26 PA5/T0CLK (io), 27 PA4/T0STRT (io), 28 PA3/~{T2OUT} (io), 29 PA2/~{T1OUT} (io), 30 PA1/~{T0OUT} (io), 31 PA0/T0RES (io), 32 VPP (power), 33 VSS (power), 34 VDD (power)

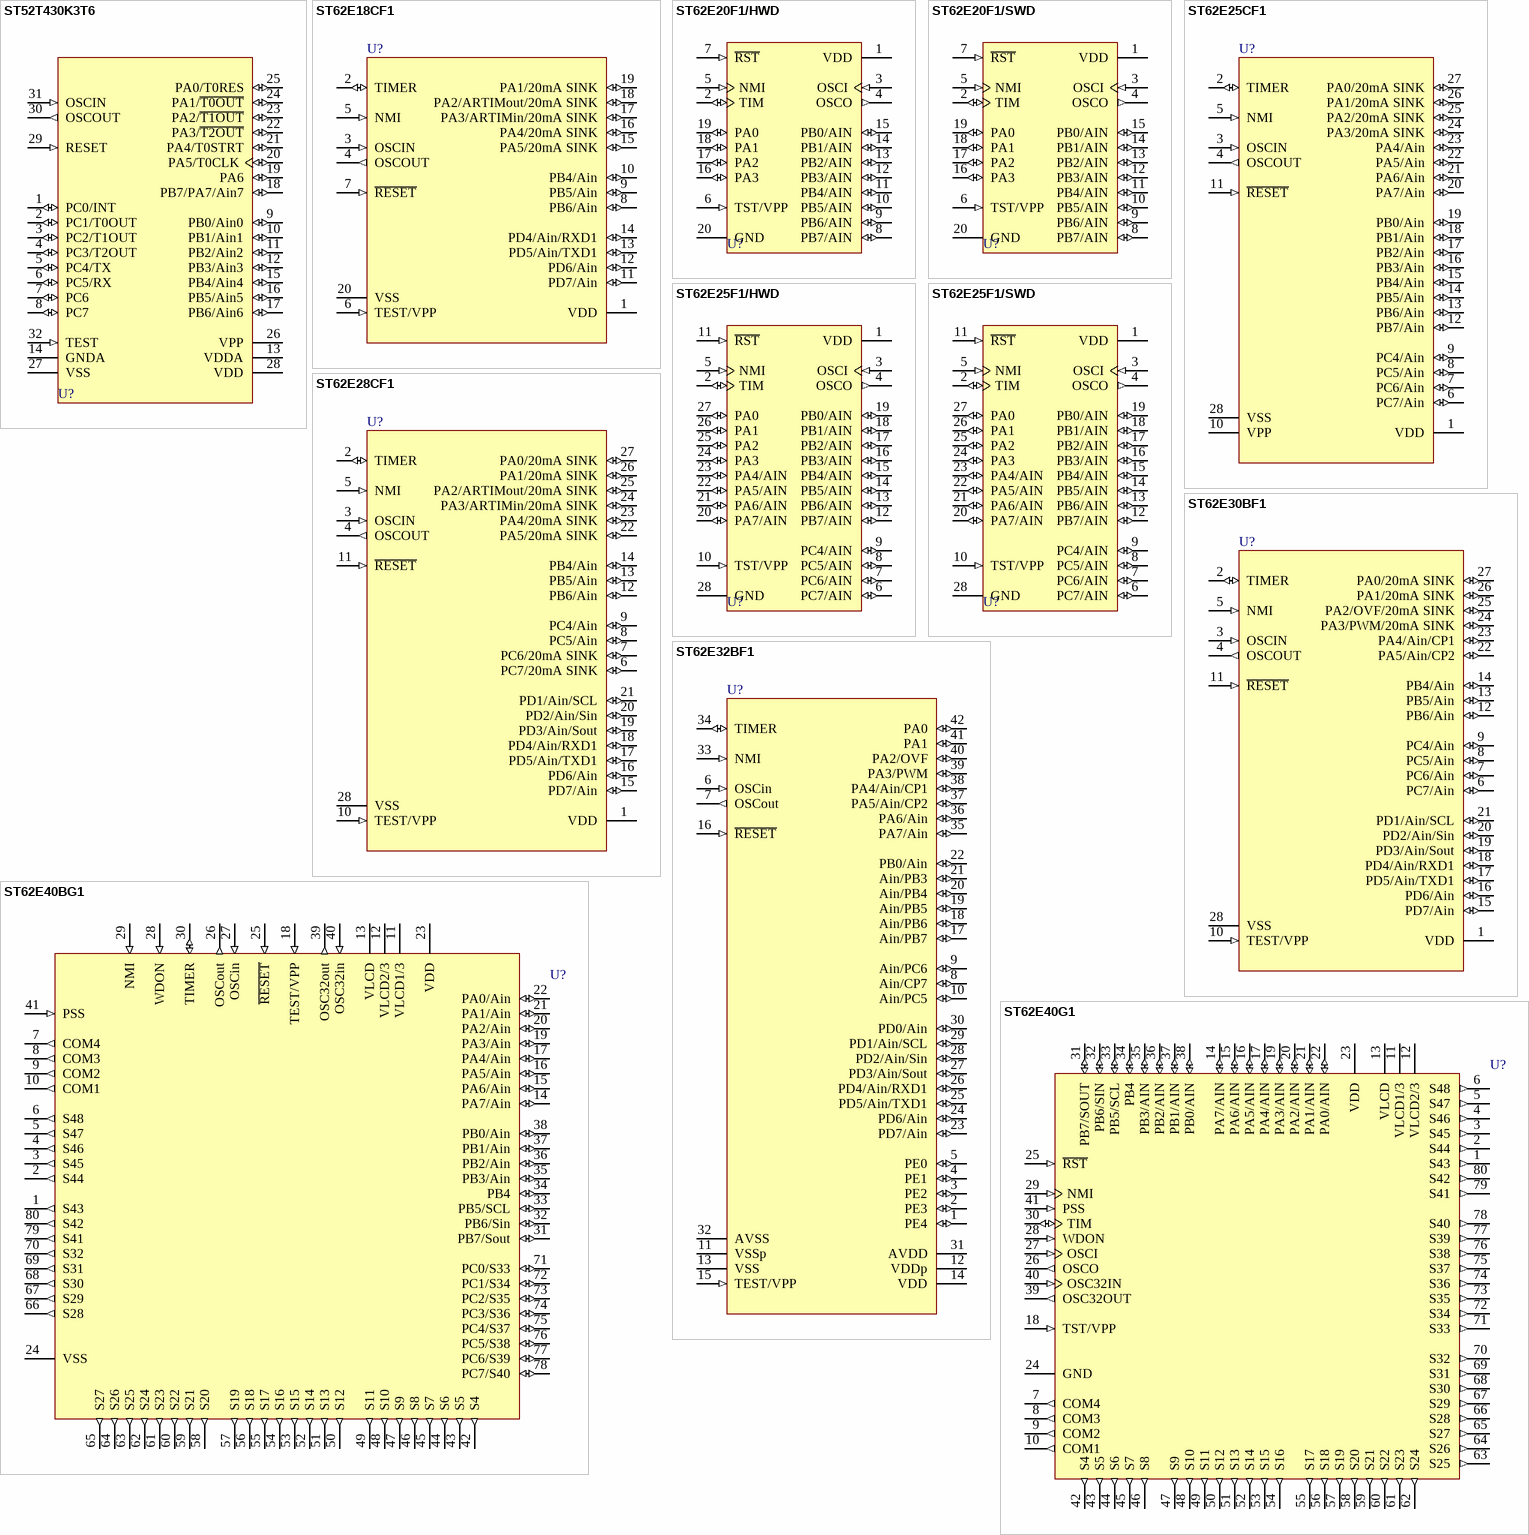
[diagram p3: symbols ST52T430K3T6 to ST62E40G1]

## ST52T430K3T6
designator U?
8-Bit OTP Intelligent Controller Unit (ICU) with Three Timer/PWM, ADC and SCI, 32-Pin TQFP; Published: 26-May-2004; DatasheetDocument: rev1.9, May-2003; PackageDocument: Oct-1997; PackageReference: TQFP32; Publisher: Altium Limited
footprint TQFP32 (QFP; 32 Leads; Body 7 x 7 mm; Pitch 0.8 mm)
pins: 1 PC0/INT (io), 2 PC1/T0OUT (io), 3 PC2/T1OUT (io), 4 PC3/T2OUT (io), 5 PC4/TX (io), 6 PC5/RX (io), 7 PC6 (io), 8 PC7 (io), 9 PB0/Ain0 (io), 10 PB1/Ain1 (io), 11 PB2/Ain2 (io), 12 PB3/Ain3 (io), 13 VDDA (power), 14 GNDA (power), 15 PB4/Ain4 (io), 16 PB5/Ain5 (io), 17 PB6/Ain6 (io), 18 PB7/PA7/Ain7 (io), 19 PA6 (io), 20 PA5/T0CLK (io), 21 PA4/T0STRT (io), 22 PA3/~{T2OUT} (io), 23 PA2/~{T1OUT} (io), 24 PA1/~{T0OUT} (io), 25 PA0/T0RES (io), 26 VPP (power), 27 VSS (power), 28 VDD (power), 29 RESET (in), 30 OSCOUT (out), 31 OSCIN (in), 32 TEST (in)

## ST62E18CF1
designator U?
8-Bit EPROM MCU with A/D Converter, Auto-Reload Timer, UART, OSG, Safe Reset, 20-Pin CDIP, Standard; Published: 26-May-2004; DatasheetDocument: rev2.6, Jul-2001; PackageDocument: Oct-2003; PackageReference: CDIP20W; Publisher: Altium Limited; Code_JEDEC: MS-015-AE
footprint CDIP20W (DIP; 20 Leads; Row Spacing 7.62 mm; Pitch 2.54 mm)
pins: 1 VDD (power), 2 TIMER (io), 3 OSCIN (in), 4 OSCOUT (out), 5 NMI (in), 6 TEST/VPP (in), 7 ~{RESET} (in), 8 PB6/Ain (io), 9 PB5/Ain (io), 10 PB4/Ain (io), 11 PD7/Ain (io), 12 PD6/Ain (io), 13 PD5/Ain/TXD1 (io), 14 PD4/Ain/RXD1 (io), 15 PA5/20mA SINK (io), 16 PA4/20mA SINK (io), 17 PA3/ARTIMin/20mA SINK (io), 18 PA2/ARTIMout/20mA SINK (io), 19 PA1/20mA SINK (io), 20 VSS (power)

## ST62E20F1/HWD
designator U?
8-Bit EPROM  MCU with A/D Converter; Published: 24-Aug-2001; LatestRevisionDate: 17-Jul-2002; LatestRevisionNote: Re-released for DXP Platform.; DatasheetDocument: Oct-1996; PackageDocument: Oct-2003; PackageReference: CDIP20W; Publisher: Altium Limited; Code_JEDEC: MS-015-AE
footprint CDIP20W (DIP; 20 Leads; Row Spacing 7.62 mm; Pitch 2.54 mm)
pins: 1 VDD (power), 2 TIM (io), 3 OSCI (in), 4 OSCO (out), 5 NMI (in), 6 TST/VPP (in), 7 ~{RST} (in), 8 PB7/AIN (io), 9 PB6/AIN (io), 10 PB5/AIN (io), 11 PB4/AIN (io), 12 PB3/AIN (io), 13 PB2/AIN (io), 14 PB1/AIN (io), 15 PB0/AIN (io), 16 PA3 (io), 17 PA2 (io), 18 PA1 (io), 19 PA0 (io), 20 GND (power)

## ST62E20F1/SWD
designator U?
8-Bit EPROM  MCU with A/D Converter; Published: 24-Aug-2001; LatestRevisionDate: 17-Jul-2002; LatestRevisionNote: Re-released for DXP Platform.; DatasheetDocument: Oct-1996; PackageDocument: Oct-2003; PackageReference: CDIP20W; Publisher: Altium Limited; Code_JEDEC: MS-015-AE
footprint CDIP20W (DIP; 20 Leads; Row Spacing 7.62 mm; Pitch 2.54 mm)
pins: 1 VDD (power), 2 TIM (io), 3 OSCI (in), 4 OSCO (out), 5 NMI (in), 6 TST/VPP (in), 7 ~{RST} (in), 8 PB7/AIN (io), 9 PB6/AIN (io), 10 PB5/AIN (io), 11 PB4/AIN (io), 12 PB3/AIN (io), 13 PB2/AIN (io), 14 PB1/AIN (io), 15 PB0/AIN (io), 16 PA3 (io), 17 PA2 (io), 18 PA1 (io), 19 PA0 (io), 20 GND (power)

## ST62E25CF1
designator U?
8-Bit EPROM MCU with A/D Converter, Two Timers, Oscillator Safeguard and Safe Reset, 28-Pin CDIP, Standard; Published: 26-May-2004; DatasheetDocument: rev3.3, Oct-2003; PackageDocument: Oct-2003; PackageReference: CDIP28W; Publisher: Altium Limited
footprint CDIP28W (DIP, Ceramic, Side-Brazed; 28 Leads; Row Spacing 15.24 mm; Pitch 2.54 mm)
pins: 1 VDD (power), 2 TIMER (io), 3 OSCIN (in), 4 OSCOUT (out), 5 NMI (in), 6 PC7/Ain (io), 7 PC6/Ain (io), 8 PC5/Ain (io), 9 PC4/Ain (io), 10 VPP (power), 11 ~{RESET} (in), 12 PB7/Ain (io), 13 PB6/Ain (io), 14 PB5/Ain (io), 15 PB4/Ain (io), 16 PB3/Ain (io), 17 PB2/Ain (io), 18 PB1/Ain (io), 19 PB0/Ain (io), 20 PA7/Ain (io), 21 PA6/Ain (io), 22 PA5/Ain (io), 23 PA4/Ain (io), 24 PA3/20mA SINK (io), 25 PA2/20mA SINK (io), 26 PA1/20mA SINK (io), 27 PA0/20mA SINK (io), 28 VSS (power)

## ST62E25F1/HWD
designator U?
8-Bit EPROM  MCU with A/D Converter; Published: 24-Aug-2001; LatestRevisionDate: 17-Jul-2002; LatestRevisionNote: Re-released for DXP Platform.; DatasheetDocument: Oct-1996; PackageDocument: Oct-2003; PackageReference: CDIP28W; Publisher: Altium Limited
footprint CDIP28W (DIP, Ceramic, Side-Brazed; 28 Leads; Row Spacing 15.24 mm; Pitch 2.54 mm)
pins: 1 VDD (power), 2 TIM (io), 3 OSCI (in), 4 OSCO (out), 5 NMI (in), 6 PC7/AIN (io), 7 PC6/AIN (io), 8 PC5/AIN (io), 9 PC4/AIN (io), 10 TST/VPP (in), 11 ~{RST} (in), 12 PB7/AIN (io), 13 PB6/AIN (io), 14 PB5/AIN (io), 15 PB4/AIN (io), 16 PB3/AIN (io), 17 PB2/AIN (io), 18 PB1/AIN (io), 19 PB0/AIN (io), 20 PA7/AIN (io), 21 PA6/AIN (io), 22 PA5/AIN (io), 23 PA4/AIN (io), 24 PA3 (io), 25 PA2 (io), 26 PA1 (io), 27 PA0 (io), 28 GND (power)

## ST62E25F1/SWD
designator U?
8-Bit EPROM  MCU with A/D Converter; Published: 24-Aug-2001; LatestRevisionDate: 17-Jul-2002; LatestRevisionNote: Re-released for DXP Platform.; DatasheetDocument: Oct-1996; PackageDocument: Oct-2003; PackageReference: CDIP28W; Publisher: Altium Limited
footprint CDIP28W (DIP, Ceramic, Side-Brazed; 28 Leads; Row Spacing 15.24 mm; Pitch 2.54 mm)
pins: 1 VDD (power), 2 TIM (io), 3 OSCI (in), 4 OSCO (out), 5 NMI (in), 6 PC7/AIN (io), 7 PC6/AIN (io), 8 PC5/AIN (io), 9 PC4/AIN (io), 10 TST/VPP (in), 11 ~{RST} (in), 12 PB7/AIN (io), 13 PB6/AIN (io), 14 PB5/AIN (io), 15 PB4/AIN (io), 16 PB3/AIN (io), 17 PB2/AIN (io), 18 PB1/AIN (io), 19 PB0/AIN (io), 20 PA7/AIN (io), 21 PA6/AIN (io), 22 PA5/AIN (io), 23 PA4/AIN (io), 24 PA3 (io), 25 PA2 (io), 26 PA1 (io), 27 PA0 (io), 28 GND (power)

## ST62E28CF1
designator U?
8-Bit EPROM MCU with A/D Converter, Auto-Reload Timer, UART, OSG, Safe Reset , 28-Pin CDIP, Standard; Published: 26-May-2004; DatasheetDocument: rev2.9, Jul-2001; PackageDocument: Oct-2003; PackageReference: CDIP28W; Publisher: Altium Limited
footprint CDIP28W (DIP, Ceramic, Side-Brazed; 28 Leads; Row Spacing 15.24 mm; Pitch 2.54 mm)
pins: 1 VDD (power), 2 TIMER (io), 3 OSCIN (in), 4 OSCOUT (out), 5 NMI (in), 6 PC7/20mA SINK (io), 7 PC6/20mA SINK (io), 8 PC5/Ain (io), 9 PC4/Ain (io), 10 TEST/VPP (in), 11 ~{RESET} (in), 12 PB6/Ain (io), 13 PB5/Ain (io), 14 PB4/Ain (io), 15 PD7/Ain (io), 16 PD6/Ain (io), 17 PD5/Ain/TXD1 (io), 18 PD4/Ain/RXD1 (io), 19 PD3/Ain/Sout (io), 20 PD2/Ain/Sin (io), 21 PD1/Ain/SCL (io), 22 PA5/20mA SINK (io), 23 PA4/20mA SINK (io), 24 PA3/ARTIMin/20mA SINK (io), 25 PA2/ARTIMout/20mA SINK (io), 26 PA1/20mA SINK (io), 27 PA0/20mA SINK (io), 28 VSS (power)

## ST62E30BF1
designator U?
8-Bit EPROM MCU with A/D Converter, 16-Bit Auto-Reload Timer, EEPROM, SPI and UART, 28-Pin CDIP, Standard; Published: 26-May-2004; DatasheetDocument: rev2.7, Oct-2003; PackageDocument: Oct-2003; PackageReference: CDIP28W; Publisher: Altium Limited
footprint CDIP28W (DIP, Ceramic, Side-Brazed; 28 Leads; Row Spacing 15.24 mm; Pitch 2.54 mm)
pins: 1 VDD (power), 2 TIMER (io), 3 OSCIN (in), 4 OSCOUT (out), 5 NMI (in), 6 PC7/Ain (io), 7 PC6/Ain (io), 8 PC5/Ain (io), 9 PC4/Ain (io), 10 TEST/VPP (in), 11 ~{RESET} (in), 12 PB6/Ain (io), 13 PB5/Ain (io), 14 PB4/Ain (io), 15 PD7/Ain (io), 16 PD6/Ain (io), 17 PD5/Ain/TXD1 (io), 18 PD4/Ain/RXD1 (io), 19 PD3/Ain/Sout (io), 20 PD2/Ain/Sin (io), 21 PD1/Ain/SCL (io), 22 PA5/Ain/CP2 (io), 23 PA4/Ain/CP1 (io), 24 PA3/PWM/20mA SINK (io), 25 PA2/OVF/20mA SINK (io), 26 PA1/20mA SINK (io), 27 PA0/20mA SINK (io), 28 VSS (power)

## ST62E32BF1
designator U?
8-Bit EPROM MCU with A/D Converter, 16-Bit Auto-Reload Timer, EEPROM, SPI and UART, 42-Pin CDIP, Standard; PackageDocument: Rev. 1.8, May-2001; Published: 26-May-2004; DatasheetDocument: rev2.8, Oct-2003; PackageReference: CDIP42SW; Publisher: Altium Limited
footprint CDIP42SW (DIP, Ceramic, Shrink; 42 Leads; Row Spacing 15.24 mm; Pitch 1.78 mm)
pins: 1 PE4 (io), 2 PE3 (io), 3 PE2 (io), 4 PE1 (io), 5 PE0 (io), 6 OSCin (in), 7 OSCout (out), 8 Ain/CP7 (io), 9 Ain/PC6 (io), 10 Ain/PC5 (io), 11 VSSp (power), 12 VDDp (power), 13 VSS (power), 14 VDD (power), 15 TEST/VPP (in), 16 ~{RESET} (in), 17 Ain/PB7 (io), 18 Ain/PB6 (io), 19 Ain/PB5 (io), 20 Ain/PB4 (io), 21 Ain/PB3 (io), 22 PB0/Ain (io), 23 PD7/Ain (io), 24 PD6/Ain (io), 25 PD5/Ain/TXD1 (io), 26 PD4/Ain/RXD1 (io), 27 PD3/Ain/Sout (io), 28 PD2/Ain/Sin (io), 29 PD1/Ain/SCL (io), 30 PD0/Ain (io), 31 AVDD (power), 32 AVSS (power), 33 NMI (in), 34 TIMER (io), 35 PA7/Ain (io), 36 PA6/Ain (io), 37 PA5/Ain/CP2 (io), 38 PA4/Ain/CP1 (io), 39 PA3/PWM (io), 40 PA2/OVF (io), 41 PA1 (io), 42 PA0 (io)

## ST62E40BG1
designator U?
8-Bit EPROM MCU with LCD Driver, EEPROM and A/D Converter, 80-Pin CQFP, Standard; PackageDocument: rev3.3, Jan-2001; Note: Pins 31 to 34 can also sink 20mA for direct LED or TRIAC drive.; Published: 26-May-2004; DatasheetDocument: rev2.7, Jul-2001; PackageReference: CQFP080; Publisher: Altium Limited
footprint CQFP080 (QFP, Ceramic; 80 Leads; Body 14 x 20 mm; Pitch 0.8 mm)
pins: 1 S43 (out), 2 S44 (out), 3 S45 (out), 4 S46 (out), 5 S47 (out), 6 S48 (out), 7 COM4 (out), 8 COM3 (out), 9 COM2 (out), 10 COM1 (out), 11 VLCD1/3 (power), 12 VLCD2/3 (power), 13 VLCD (power), 14 PA7/Ain (io), 15 PA6/Ain (io), 16 PA5/Ain (io), 17 PA4/Ain (io), 18 TEST/VPP (in), 19 PA3/Ain (io), 20 PA2/Ain (io), 21 PA1/Ain (io), 22 PA0/Ain (io), 23 VDD (power), 24 VSS (power), 25 ~{RESET} (in), 26 OSCout (out), 27 OSCin (in), 28 WDON (in), 29 NMI (in), 30 TIMER (io), 31 PB7/Sout (io), 32 PB6/Sin (io), 33 PB5/SCL (io), 34 PB4 (io), 35 PB3/Ain (io), 36 PB2/Ain (io), 37 PB1/Ain (io), 38 PB0/Ain (io), 39 OSC32out (out), 40 OSC32in (in), 41 PSS (in), 42 S4 (out), 43 S5 (out), 44 S6 (out), 45 S7 (out), 46 S8 (out), 47 S9 (out), 48 S10 (out), 49 S11 (out), 50 S12 (out), 51 S13 (out), 52 S14 (out), 53 S15 (out), 54 S16 (out), 55 S17 (out), 56 S18 (out), 57 S19 (out), 58 S20 (out), 59 S21 (out), 60 S22 (out), 61 S23 (out), 62 S24 (out), 63 S25 (out), 64 S26 (out), 65 S27 (out), 66 S28 (out), 67 S29 (out), 68 S30 (out), 69 S31 (out), 70 S32 (out), 71 PC0/S33 (io), 72 PC1/S34 (io), 73 PC2/S35 (io), 74 PC3/S36 (io), 75 PC4/S37 (io), 76 PC5/S38 (io), 77 PC6/S39 (io), 78 PC7/S40 (io), 79 S41 (out), 80 S42 (out)

## ST62E40G1
designator U?
8-Bit OPT/EPROM HCMOS MCU with LCD Driver, EEPROM and A/D Converter; PackageDocument: rev3.3, Jan-2001; Published: 24-Aug-2001; LatestRevisionDate: 21-May-2003; LatestRevisionNote: PCB Footprint 'R-QFP14x20-G80/X.4N' replaced.; DatasheetDocument: Apr-1995; PackageReference: CQFP080; Publisher: Altium Limited
footprint CQFP080 (QFP, Ceramic; 80 Leads; Body 14 x 20 mm; Pitch 0.8 mm)
pins: 1 S43 (out), 2 S44 (out), 3 S45 (out), 4 S46 (out), 5 S47 (out), 6 S48 (out), 7 COM4 (out), 8 COM3 (out), 9 COM2 (out), 10 COM1 (out), 11 VLCD1/3, 12 VLCD2/3, 13 VLCD, 14 PA7/AIN (io), 15 PA6/AIN (io), 16 PA5/AIN (io), 17 PA4/AIN (io), 18 TST/VPP (in), 19 PA3/AIN (io), 20 PA2/AIN (io), 21 PA1/AIN (io), 22 PA0/AIN (io), 23 VDD (power), 24 GND (power), 25 ~{RST} (in), 26 OSCO (out), 27 OSCI (in), 28 WDON (in), 29 NMI (in), 30 TIM (io), 31 PB7/SOUT (io), 32 PB6/SIN (io), 33 PB5/SCL (io), 34 PB4 (io), 35 PB3/AIN (io), 36 PB2/AIN (io), 37 PB1/AIN (io), 38 PB0/AIN (io), 39 OSC32OUT (out), 40 OSC32IN (in), 41 PSS (in), 42 S4 (out), 43 S5 (out), 44 S6 (out), 45 S7 (out), 46 S8 (out), 47 S9 (out), 48 S10 (out), 49 S11 (out), 50 S12 (out), 51 S13 (out), 52 S14 (out), 53 S15 (out), 54 S16 (out), 55 S17 (out), 56 S18 (out), 57 S19 (out), 58 S20 (out), 59 S21 (out), 60 S22 (out), 61 S23 (out), 62 S24 (out), 63 S25 (out), 64 S26 (out), 65 S27 (out), 66 S28 (out), 67 S29 (out), 68 S30 (out), 69 S31 (out), 70 S32 (out), 71 S33 (out), 72 S34 (out), 73 S35 (out), 74 S36 (out), 75 S37 (out), 76 S38 (out), 77 S39 (out), 78 S40 (out), 79 S41 (out), 80 S42 (out)

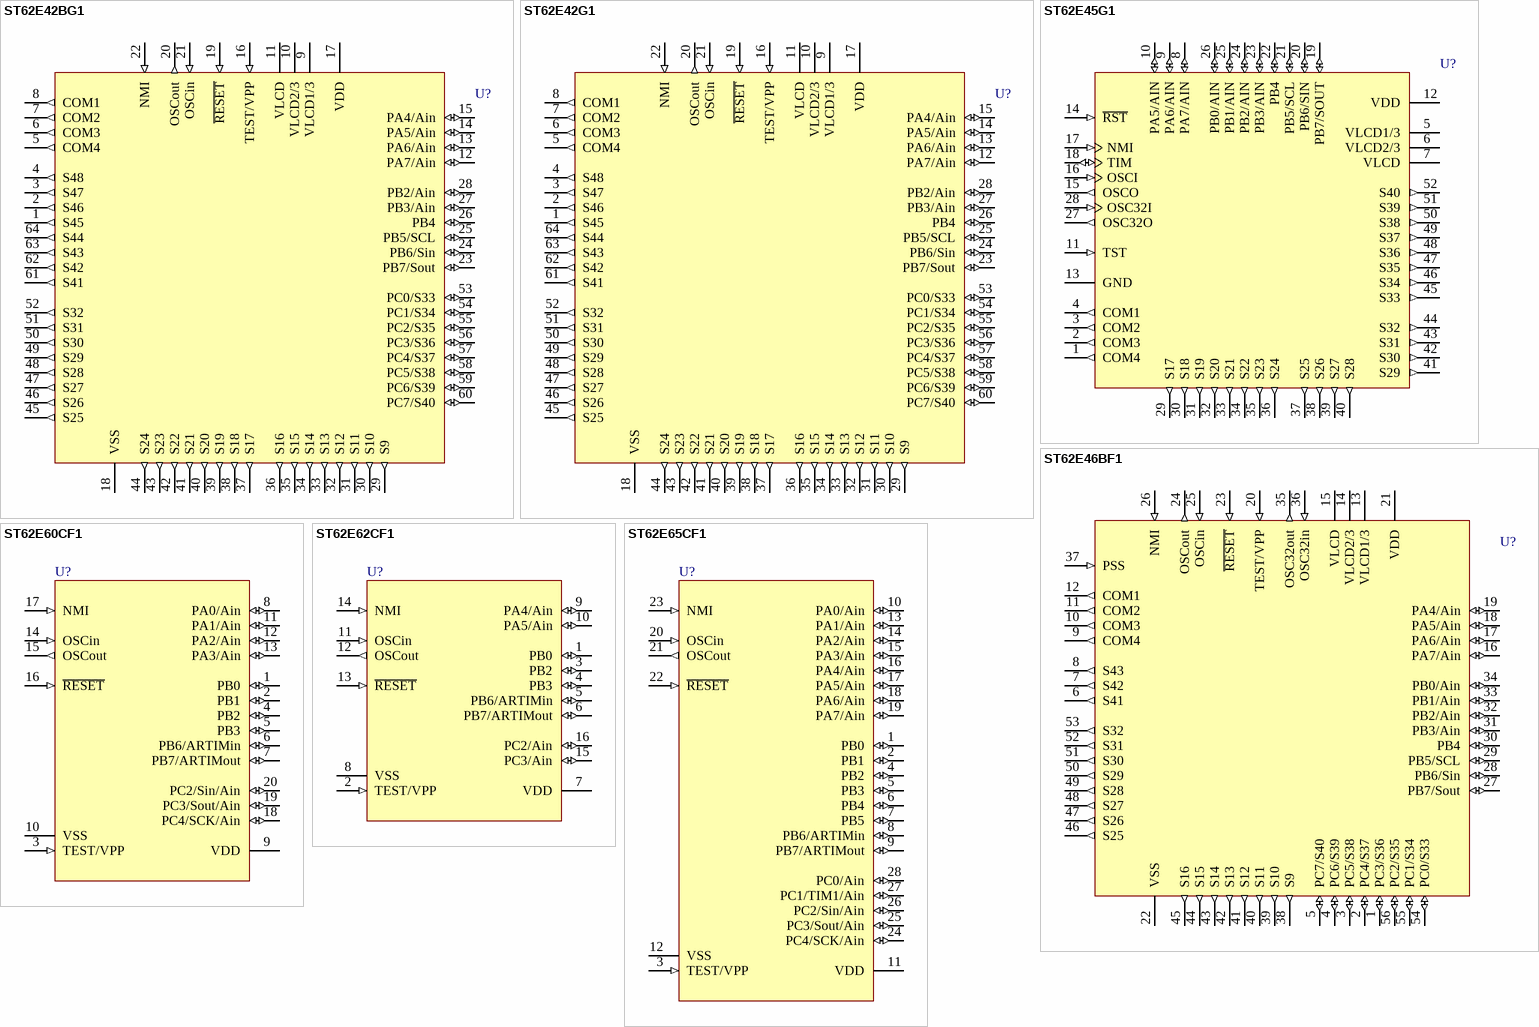
[diagram p4: symbols ST62E42BG1 to ST62E65CF1]

## ST62E42BG1
designator U?
8-Bit EPROM MCU with LCD Driver, EEPROM and A/D Converter, 64-Pin CQFP, Standard; PackageDocument: rev2.4, Jan-2002; Note: Pins 23 to 26 can also sink 20mA for direct LED or TRIAC drive.; Published: 26-May-2004; DatasheetDocument: rev2.7, Jul-2001; PackageReference: CQFP064W; Publisher: Altium Limited; Code_IPC: QFP14X14-64
footprint CQFP064W (QFP, Ceramic; 64 Leads; Body 14 x 14 mm; Pitch 0.8 mm)
pins: 1 S45 (out), 2 S46 (out), 3 S47 (out), 4 S48 (out), 5 COM4 (out), 6 COM3 (out), 7 COM2 (out), 8 COM1 (out), 9 VLCD1/3 (power), 10 VLCD2/3 (power), 11 VLCD (power), 12 PA7/Ain (io), 13 PA6/Ain (io), 14 PA5/Ain (io), 15 PA4/Ain (io), 16 TEST/VPP (in), 17 VDD (power), 18 VSS (power), 19 ~{RESET} (in), 20 OSCout (out), 21 OSCin (in), 22 NMI (in), 23 PB7/Sout (io), 24 PB6/Sin (io), 25 PB5/SCL (io), 26 PB4 (io), 27 PB3/Ain (io), 28 PB2/Ain (io), 29 S9 (out), 30 S10 (out), 31 S11 (out), 32 S12 (out), 33 S13 (out), 34 S14 (out), 35 S15 (out), 36 S16 (out), 37 S17 (out), 38 S18 (out), 39 S19 (out), 40 S20 (out), 41 S21 (out), 42 S22 (out), 43 S23 (out), 44 S24 (out), 45 S25 (out), 46 S26 (out), 47 S27 (out), 48 S28 (out), 49 S29 (out), 50 S30 (out), 51 S31 (out), 52 S32 (out), 53 PC0/S33 (io), 54 PC1/S34 (io), 55 PC2/S35 (io), 56 PC3/S36 (io), 57 PC4/S37 (io), 58 PC5/S38 (io), 59 PC6/S39 (io), 60 PC7/S40 (io), 61 S41 (out), 62 S42 (out), 63 S43 (out), 64 S44 (out)

## ST62E42G1
designator U?
8-Bit EPROM HCMOS MCU with LCD Driver and A/D Converter; PackageDocument: rev2.4, Jan-2002; Published: 24-Aug-2001; LatestRevisionDate: 17-Jul-2002; LatestRevisionNote: Re-released for DXP Platform.; DatasheetDocument: Apr-1995; PackageReference: CQFP064W; Publisher: Altium Limited; Code_IPC: QFP14X14-64
footprint CQFP064W (QFP, Ceramic; 64 Leads; Body 14 x 14 mm; Pitch 0.8 mm)
pins: 1 S45 (out), 2 S46 (out), 3 S47 (out), 4 S48 (out), 5 COM4 (out), 6 COM3 (out), 7 COM2 (out), 8 COM1 (out), 9 VLCD1/3 (power), 10 VLCD2/3 (power), 11 VLCD (power), 12 PA7/Ain (io), 13 PA6/Ain (io), 14 PA5/Ain (io), 15 PA4/Ain (io), 16 TEST/VPP (in), 17 VDD (power), 18 VSS (power), 19 ~{RESET} (in), 20 OSCout (out), 21 OSCin (in), 22 NMI (in), 23 PB7/Sout (io), 24 PB6/Sin (io), 25 PB5/SCL (io), 26 PB4 (io), 27 PB3/Ain (io), 28 PB2/Ain (io), 29 S9 (out), 30 S10 (out), 31 S11 (out), 32 S12 (out), 33 S13 (out), 34 S14 (out), 35 S15 (out), 36 S16 (out), 37 S17 (out), 38 S18 (out), 39 S19 (out), 40 S20 (out), 41 S21 (out), 42 S22 (out), 43 S23 (out), 44 S24 (out), 45 S25 (out), 46 S26 (out), 47 S27 (out), 48 S28 (out), 49 S29 (out), 50 S30 (out), 51 S31 (out), 52 S32 (out), 53 PC0/S33 (io), 54 PC1/S34 (io), 55 PC2/S35 (io), 56 PC3/S36 (io), 57 PC4/S37 (io), 58 PC5/S38 (io), 59 PC6/S39 (io), 60 PC7/S40 (io), 61 S41 (out), 62 S42 (out), 63 S43 (out), 64 S44 (out)

## ST62E45G1
designator U?
8-Bit EPROM HCMOS MCU with LCD Driver, EEPROM and A/D Converter; Published: 24-Aug-2001; LatestRevisionDate: 17-Jul-2002; LatestRevisionNote: Re-released for DXP Platform.; DatasheetDocument: Apr-1995; PackageReference: CQFP52W; Publisher: Altium Limited
footprint CQFP52W (QFP, Ceramic Window; 52 Leads; Body 14 x 14 mm; Pitch 1 mm)
pins: 1 COM4 (out), 2 COM3 (out), 3 COM2 (out), 4 COM1 (out), 5 VLCD1/3, 6 VLCD2/3, 7 VLCD, 8 PA7/AIN (io), 9 PA6/AIN (io), 10 PA5/AIN (io), 11 TST (in), 12 VDD (power), 13 GND (power), 14 ~{RST} (in), 15 OSCO (out), 16 OSCI (in), 17 NMI (in), 18 TIM (io), 19 PB7/SOUT (io), 20 PB6/SIN (io), 21 PB5/SCL (io), 22 PB4 (io), 23 PB3/AIN (io), 24 PB2/AIN (io), 25 PB1/AIN (io), 26 PB0/AIN (io), 27 OSC32O (out), 28 OSC32I (in), 29 S17 (out), 30 S18 (out), 31 S19 (out), 32 S20 (out), 33 S21 (out), 34 S22 (out), 35 S23 (out), 36 S24 (out), 37 S25 (out), 38 S26 (out), 39 S27 (out), 40 S28 (out), 41 S29 (out), 42 S30 (out), 43 S31 (out), 44 S32 (out), 45 S33 (out), 46 S34 (out), 47 S35 (out), 48 S36 (out), 49 S37 (out), 50 S38 (out), 51 S39 (out), 52 S40 (out)